# Altium schematic symbol library MCU_NXP_LPC.SchLib: 105 symbols (part 2 of 3)
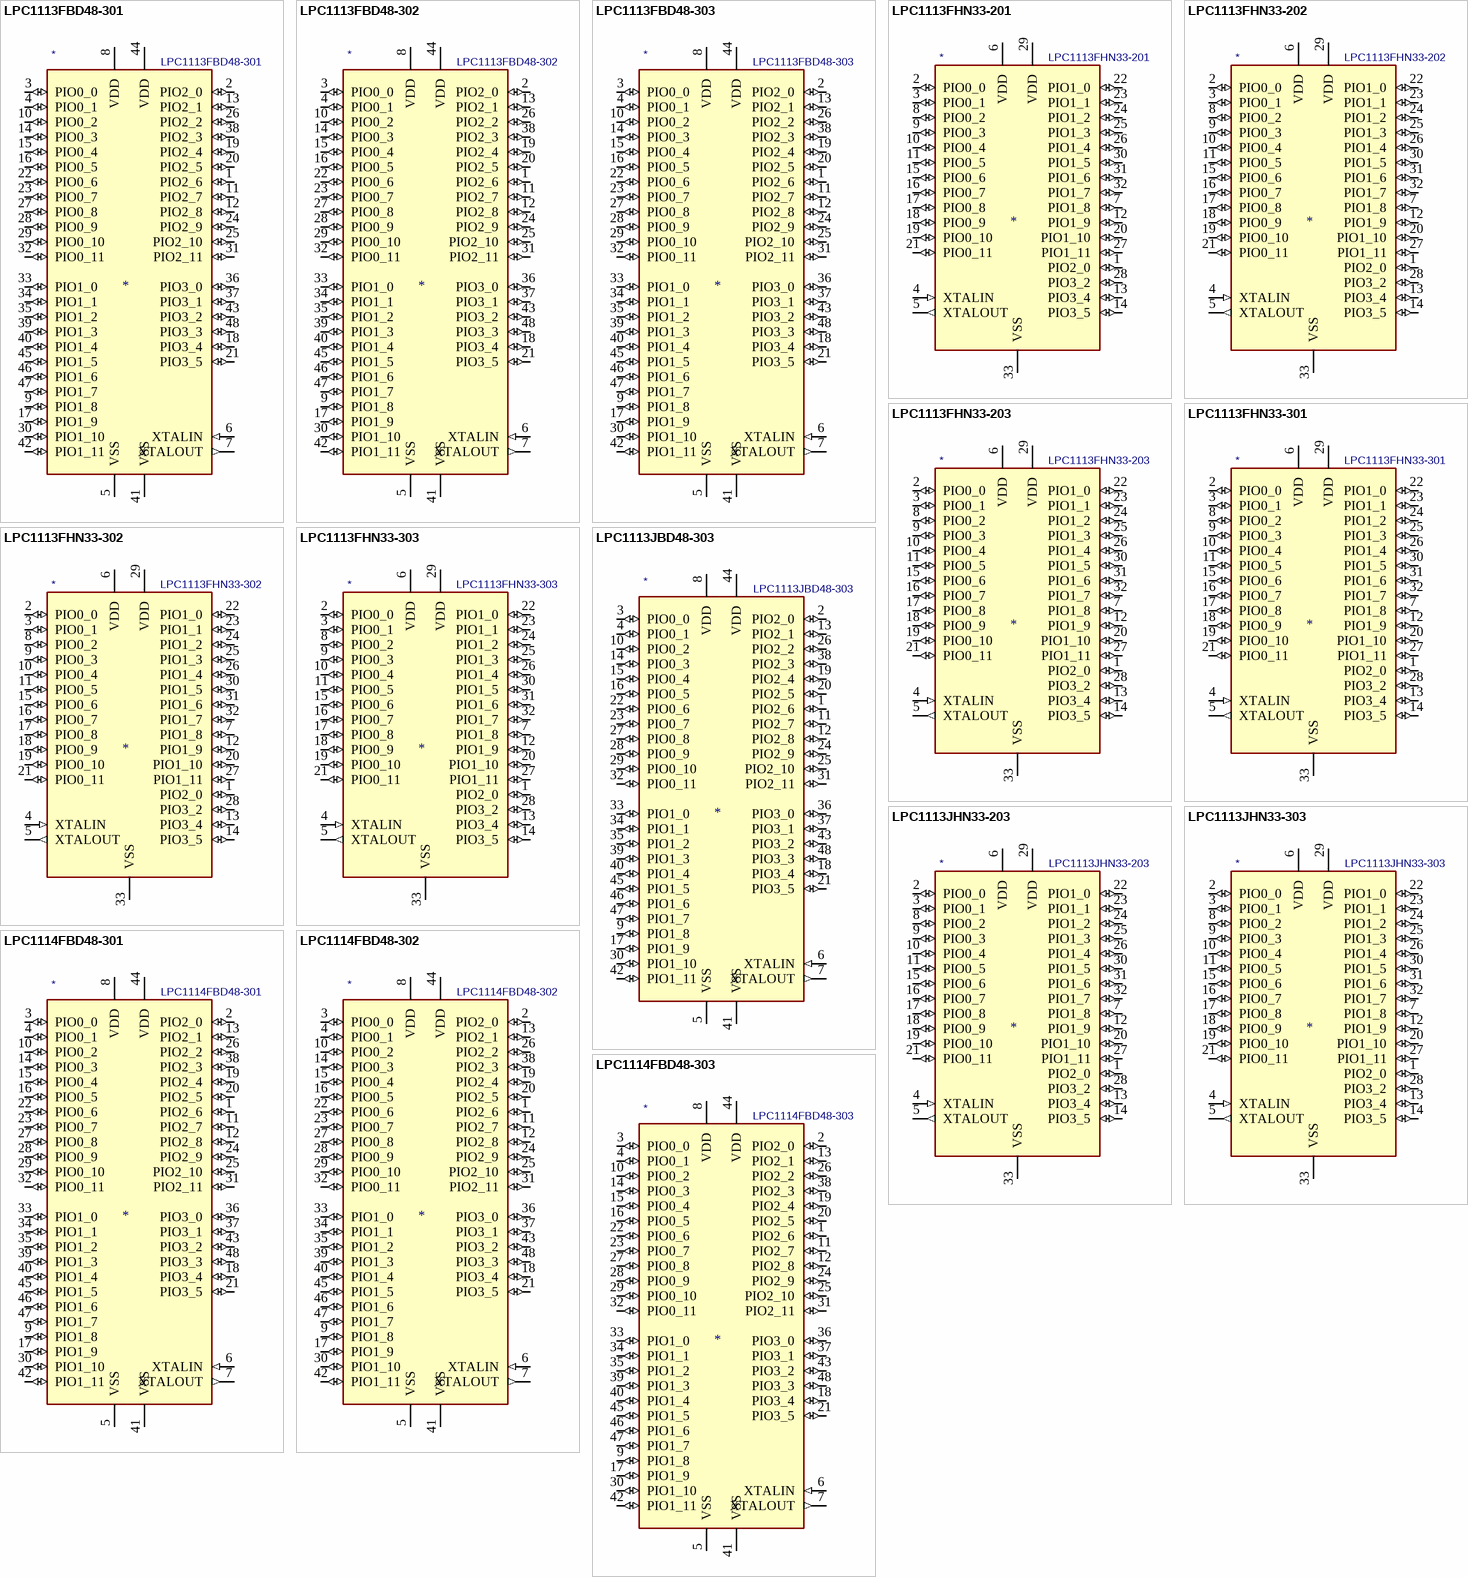
[diagram p8: symbols LPC1113FBD48-301 to LPC1114FBD48-303]

## LPC1113FBD48-303
designator *  value LPC1113FBD48-303
ki_keywords: ARM, 32-bit, Cortex-M0, M0, NXP, microcontroller; ki_description: 32-bit ARM Cortex-M0 microcontroller, 24KB flash, 8KB SRAM, power profile; ki_fp_filters: *QFP*7x7mm*P0.5mm*; Footprint: Package_QFP:LQFP-48_7x7mm_P0.5mm; Supplier: http://www.nxp.com/documents/data_sheet/LPC111X.pdf
footprint LQFP-48_7x7mm_P0.5mm
pins: 1 PIO2_6 (io), 2 PIO2_0 (io), 3 PIO0_0 (io), 4 PIO0_1 (io), 5 VSS (power), 6 XTALIN (in), 7 XTALOUT (out), 8 VDD (power), 9 PIO1_8 (io), 10 PIO0_2 (io), 11 PIO2_7 (io), 12 PIO2_8 (io), 13 PIO2_1 (io), 14 PIO0_3 (io), 15 PIO0_4 (io), 16 PIO0_5 (io), 17 PIO1_9 (io), 18 PIO3_4 (io), 19 PIO2_4 (io), 20 PIO2_5 (io), 21 PIO3_5 (io), 22 PIO0_6 (io), 23 PIO0_7 (io), 24 PIO2_9 (io), 25 PIO2_10 (io), 26 PIO2_2 (io), 27 PIO0_8 (io), 28 PIO0_9 (io), 29 PIO0_10 (io), 30 PIO1_10 (io), 31 PIO2_11 (io), 32 PIO0_11 (io), 33 PIO1_0 (io), 34 PIO1_1 (io), 35 PIO1_2 (io), 36 PIO3_0 (io), 37 PIO3_1 (io), 38 PIO2_3 (io), 39 PIO1_3 (io), 40 PIO1_4 (io), 41 VSS (power), 42 PIO1_11 (io), 43 PIO3_2 (io), 44 VDD (power), 45 PIO1_5 (io), 46 PIO1_6 (io), 47 PIO1_7 (io), 48 PIO3_3 (io)

## LPC1113FHN33-201
designator *  value LPC1113FHN33-201
ki_keywords: ARM, 32-bit, Cortex-M0, M0, NXP, microcontroller; ki_description: 32-bit ARM Cortex-M0 microcontroller, 24KB flash, 4KB SRAM; ki_fp_filters: *QFN*7x7mm*P0.65mm*; Footprint: Package_DFN_QFN:QFN-32-1EP_7x7mm_P0.65mm_EP4.7x4.7mm_ThermalVias; Supplier: https://www.nxp.com/documents/data_sheet/LPC111X.pdf
footprint QFN-32-1EP_7x7mm_P0.65mm_EP4.7x4.7mm_ThermalVias
pins: 1 PIO2_0 (io), 2 PIO0_0 (io), 3 PIO0_1 (io), 4 XTALIN (in), 5 XTALOUT (out), 6 VDD (power), 7 PIO1_8 (io), 8 PIO0_2 (io), 9 PIO0_3 (io), 10 PIO0_4 (io), 11 PIO0_5 (io), 12 PIO1_9 (io), 13 PIO3_4 (io), 14 PIO3_5 (io), 15 PIO0_6 (io), 16 PIO0_7 (io), 17 PIO0_8 (io), 18 PIO0_9 (io), 19 PIO0_10 (io), 20 PIO1_10 (io), 21 PIO0_11 (io), 22 PIO1_0 (io), 23 PIO1_1 (io), 24 PIO1_2 (io), 25 PIO1_3 (io), 26 PIO1_4 (io), 27 PIO1_11 (io), 28 PIO3_2 (io), 29 VDD (power), 30 PIO1_5 (io), 31 PIO1_6 (io), 32 PIO1_7 (io), 33 VSS (power)

## LPC1113FHN33-202
designator *  value LPC1113FHN33-202
ki_keywords: ARM, 32-bit, Cortex-M0, M0, NXP, microcontroller; ki_description: 32-bit ARM Cortex-M0 microcontroller, 24KB flash, 4KB SRAM, power profile; ki_fp_filters: *QFN*7x7mm*P0.65mm*; Footprint: Package_DFN_QFN:QFN-32-1EP_7x7mm_P0.65mm_EP4.7x4.7mm_ThermalVias; Supplier: https://www.nxp.com/documents/data_sheet/LPC111X.pdf
footprint QFN-32-1EP_7x7mm_P0.65mm_EP4.7x4.7mm_ThermalVias
pins: 1 PIO2_0 (io), 2 PIO0_0 (io), 3 PIO0_1 (io), 4 XTALIN (in), 5 XTALOUT (out), 6 VDD (power), 7 PIO1_8 (io), 8 PIO0_2 (io), 9 PIO0_3 (io), 10 PIO0_4 (io), 11 PIO0_5 (io), 12 PIO1_9 (io), 13 PIO3_4 (io), 14 PIO3_5 (io), 15 PIO0_6 (io), 16 PIO0_7 (io), 17 PIO0_8 (io), 18 PIO0_9 (io), 19 PIO0_10 (io), 20 PIO1_10 (io), 21 PIO0_11 (io), 22 PIO1_0 (io), 23 PIO1_1 (io), 24 PIO1_2 (io), 25 PIO1_3 (io), 26 PIO1_4 (io), 27 PIO1_11 (io), 28 PIO3_2 (io), 29 VDD (power), 30 PIO1_5 (io), 31 PIO1_6 (io), 32 PIO1_7 (io), 33 VSS (power)

## LPC1113FHN33-203
designator *  value LPC1113FHN33-203
ki_keywords: ARM, 32-bit, Cortex-M0, M0, NXP, microcontroller; ki_description: 32-bit ARM Cortex-M0 microcontroller, 24KB flash, 4KB SRAM; ki_fp_filters: *QFN*7x7mm*P0.65mm*; Footprint: Package_DFN_QFN:QFN-32-1EP_7x7mm_P0.65mm_EP4.7x4.7mm_ThermalVias; Supplier: https://www.nxp.com/documents/data_sheet/LPC111X.pdf
footprint QFN-32-1EP_7x7mm_P0.65mm_EP4.7x4.7mm_ThermalVias
pins: 1 PIO2_0 (io), 2 PIO0_0 (io), 3 PIO0_1 (io), 4 XTALIN (in), 5 XTALOUT (out), 6 VDD (power), 7 PIO1_8 (io), 8 PIO0_2 (io), 9 PIO0_3 (io), 10 PIO0_4 (io), 11 PIO0_5 (io), 12 PIO1_9 (io), 13 PIO3_4 (io), 14 PIO3_5 (io), 15 PIO0_6 (io), 16 PIO0_7 (io), 17 PIO0_8 (io), 18 PIO0_9 (io), 19 PIO0_10 (io), 20 PIO1_10 (io), 21 PIO0_11 (io), 22 PIO1_0 (io), 23 PIO1_1 (io), 24 PIO1_2 (io), 25 PIO1_3 (io), 26 PIO1_4 (io), 27 PIO1_11 (io), 28 PIO3_2 (io), 29 VDD (power), 30 PIO1_5 (io), 31 PIO1_6 (io), 32 PIO1_7 (io), 33 VSS (power)

## LPC1113FHN33-301
designator *  value LPC1113FHN33-301
ki_keywords: ARM, 32-bit, Cortex-M0, M0, NXP, microcontroller; ki_description: 32-bit ARM Cortex-M0 microcontroller, 24KB flash, 8KB SRAM; ki_fp_filters: *QFN*7x7mm*P0.65mm*; Footprint: Package_DFN_QFN:QFN-32-1EP_7x7mm_P0.65mm_EP4.7x4.7mm_ThermalVias; Supplier: https://www.nxp.com/documents/data_sheet/LPC111X.pdf
footprint QFN-32-1EP_7x7mm_P0.65mm_EP4.7x4.7mm_ThermalVias
pins: 1 PIO2_0 (io), 2 PIO0_0 (io), 3 PIO0_1 (io), 4 XTALIN (in), 5 XTALOUT (out), 6 VDD (power), 7 PIO1_8 (io), 8 PIO0_2 (io), 9 PIO0_3 (io), 10 PIO0_4 (io), 11 PIO0_5 (io), 12 PIO1_9 (io), 13 PIO3_4 (io), 14 PIO3_5 (io), 15 PIO0_6 (io), 16 PIO0_7 (io), 17 PIO0_8 (io), 18 PIO0_9 (io), 19 PIO0_10 (io), 20 PIO1_10 (io), 21 PIO0_11 (io), 22 PIO1_0 (io), 23 PIO1_1 (io), 24 PIO1_2 (io), 25 PIO1_3 (io), 26 PIO1_4 (io), 27 PIO1_11 (io), 28 PIO3_2 (io), 29 VDD (power), 30 PIO1_5 (io), 31 PIO1_6 (io), 32 PIO1_7 (io), 33 VSS (power)

## LPC1113FHN33-302
designator *  value LPC1113FHN33-302
ki_keywords: ARM, 32-bit, Cortex-M0, M0, NXP, microcontroller; ki_description: 32-bit ARM Cortex-M0 microcontroller, 24KB flash, 8KB SRAM, power profile; ki_fp_filters: *QFN*7x7mm*P0.65mm*; Footprint: Package_DFN_QFN:QFN-32-1EP_7x7mm_P0.65mm_EP4.7x4.7mm_ThermalVias; Supplier: https://www.nxp.com/documents/data_sheet/LPC111X.pdf
footprint QFN-32-1EP_7x7mm_P0.65mm_EP4.7x4.7mm_ThermalVias
pins: 1 PIO2_0 (io), 2 PIO0_0 (io), 3 PIO0_1 (io), 4 XTALIN (in), 5 XTALOUT (out), 6 VDD (power), 7 PIO1_8 (io), 8 PIO0_2 (io), 9 PIO0_3 (io), 10 PIO0_4 (io), 11 PIO0_5 (io), 12 PIO1_9 (io), 13 PIO3_4 (io), 14 PIO3_5 (io), 15 PIO0_6 (io), 16 PIO0_7 (io), 17 PIO0_8 (io), 18 PIO0_9 (io), 19 PIO0_10 (io), 20 PIO1_10 (io), 21 PIO0_11 (io), 22 PIO1_0 (io), 23 PIO1_1 (io), 24 PIO1_2 (io), 25 PIO1_3 (io), 26 PIO1_4 (io), 27 PIO1_11 (io), 28 PIO3_2 (io), 29 VDD (power), 30 PIO1_5 (io), 31 PIO1_6 (io), 32 PIO1_7 (io), 33 VSS (power)

## LPC1113FHN33-303
designator *  value LPC1113FHN33-303
ki_keywords: ARM, 32-bit, Cortex-M0, M0, NXP, microcontroller; ki_description: 32-bit ARM Cortex-M0 microcontroller, 24KB flash, 8KB SRAM; ki_fp_filters: *QFN*7x7mm*P0.65mm*; Footprint: Package_DFN_QFN:QFN-32-1EP_7x7mm_P0.65mm_EP4.7x4.7mm_ThermalVias; Supplier: https://www.nxp.com/documents/data_sheet/LPC111X.pdf
footprint QFN-32-1EP_7x7mm_P0.65mm_EP4.7x4.7mm_ThermalVias
pins: 1 PIO2_0 (io), 2 PIO0_0 (io), 3 PIO0_1 (io), 4 XTALIN (in), 5 XTALOUT (out), 6 VDD (power), 7 PIO1_8 (io), 8 PIO0_2 (io), 9 PIO0_3 (io), 10 PIO0_4 (io), 11 PIO0_5 (io), 12 PIO1_9 (io), 13 PIO3_4 (io), 14 PIO3_5 (io), 15 PIO0_6 (io), 16 PIO0_7 (io), 17 PIO0_8 (io), 18 PIO0_9 (io), 19 PIO0_10 (io), 20 PIO1_10 (io), 21 PIO0_11 (io), 22 PIO1_0 (io), 23 PIO1_1 (io), 24 PIO1_2 (io), 25 PIO1_3 (io), 26 PIO1_4 (io), 27 PIO1_11 (io), 28 PIO3_2 (io), 29 VDD (power), 30 PIO1_5 (io), 31 PIO1_6 (io), 32 PIO1_7 (io), 33 VSS (power)

## LPC1113JBD48-303
designator *  value LPC1113JBD48-303
ki_keywords: ARM, 32-bit, Cortex-M0, M0, NXP, microcontroller; ki_description: 32-bit ARM Cortex-M0 microcontroller, 24KB flash, 8KB SRAM, power profile; ki_fp_filters: *QFP*7x7mm*P0.5mm*; Footprint: Package_QFP:LQFP-48_7x7mm_P0.5mm; Supplier: http://www.nxp.com/documents/data_sheet/LPC111X.pdf
footprint LQFP-48_7x7mm_P0.5mm
pins: 1 PIO2_6 (io), 2 PIO2_0 (io), 3 PIO0_0 (io), 4 PIO0_1 (io), 5 VSS (power), 6 XTALIN (in), 7 XTALOUT (out), 8 VDD (power), 9 PIO1_8 (io), 10 PIO0_2 (io), 11 PIO2_7 (io), 12 PIO2_8 (io), 13 PIO2_1 (io), 14 PIO0_3 (io), 15 PIO0_4 (io), 16 PIO0_5 (io), 17 PIO1_9 (io), 18 PIO3_4 (io), 19 PIO2_4 (io), 20 PIO2_5 (io), 21 PIO3_5 (io), 22 PIO0_6 (io), 23 PIO0_7 (io), 24 PIO2_9 (io), 25 PIO2_10 (io), 26 PIO2_2 (io), 27 PIO0_8 (io), 28 PIO0_9 (io), 29 PIO0_10 (io), 30 PIO1_10 (io), 31 PIO2_11 (io), 32 PIO0_11 (io), 33 PIO1_0 (io), 34 PIO1_1 (io), 35 PIO1_2 (io), 36 PIO3_0 (io), 37 PIO3_1 (io), 38 PIO2_3 (io), 39 PIO1_3 (io), 40 PIO1_4 (io), 41 VSS (power), 42 PIO1_11 (io), 43 PIO3_2 (io), 44 VDD (power), 45 PIO1_5 (io), 46 PIO1_6 (io), 47 PIO1_7 (io), 48 PIO3_3 (io)

## LPC1113JHN33-203
designator *  value LPC1113JHN33-203
ki_keywords: ARM, 32-bit, Cortex-M0, M0, NXP, microcontroller; ki_description: 32-bit ARM Cortex-M0 microcontroller, 24KB flash, 4KB SRAM; ki_fp_filters: *QFN*7x7mm*P0.65mm*; Footprint: Package_DFN_QFN:QFN-32-1EP_7x7mm_P0.65mm_EP4.7x4.7mm_ThermalVias; Supplier: https://www.nxp.com/documents/data_sheet/LPC111X.pdf
footprint QFN-32-1EP_7x7mm_P0.65mm_EP4.7x4.7mm_ThermalVias
pins: 1 PIO2_0 (io), 2 PIO0_0 (io), 3 PIO0_1 (io), 4 XTALIN (in), 5 XTALOUT (out), 6 VDD (power), 7 PIO1_8 (io), 8 PIO0_2 (io), 9 PIO0_3 (io), 10 PIO0_4 (io), 11 PIO0_5 (io), 12 PIO1_9 (io), 13 PIO3_4 (io), 14 PIO3_5 (io), 15 PIO0_6 (io), 16 PIO0_7 (io), 17 PIO0_8 (io), 18 PIO0_9 (io), 19 PIO0_10 (io), 20 PIO1_10 (io), 21 PIO0_11 (io), 22 PIO1_0 (io), 23 PIO1_1 (io), 24 PIO1_2 (io), 25 PIO1_3 (io), 26 PIO1_4 (io), 27 PIO1_11 (io), 28 PIO3_2 (io), 29 VDD (power), 30 PIO1_5 (io), 31 PIO1_6 (io), 32 PIO1_7 (io), 33 VSS (power)

## LPC1113JHN33-303
designator *  value LPC1113JHN33-303
ki_keywords: ARM, 32-bit, Cortex-M0, M0, NXP, microcontroller; ki_description: 32-bit ARM Cortex-M0 microcontroller, 24KB flash, 8KB SRAM; ki_fp_filters: *QFN*7x7mm*P0.65mm*; Footprint: Package_DFN_QFN:QFN-32-1EP_7x7mm_P0.65mm_EP4.7x4.7mm_ThermalVias; Supplier: https://www.nxp.com/documents/data_sheet/LPC111X.pdf
footprint QFN-32-1EP_7x7mm_P0.65mm_EP4.7x4.7mm_ThermalVias
pins: 1 PIO2_0 (io), 2 PIO0_0 (io), 3 PIO0_1 (io), 4 XTALIN (in), 5 XTALOUT (out), 6 VDD (power), 7 PIO1_8 (io), 8 PIO0_2 (io), 9 PIO0_3 (io), 10 PIO0_4 (io), 11 PIO0_5 (io), 12 PIO1_9 (io), 13 PIO3_4 (io), 14 PIO3_5 (io), 15 PIO0_6 (io), 16 PIO0_7 (io), 17 PIO0_8 (io), 18 PIO0_9 (io), 19 PIO0_10 (io), 20 PIO1_10 (io), 21 PIO0_11 (io), 22 PIO1_0 (io), 23 PIO1_1 (io), 24 PIO1_2 (io), 25 PIO1_3 (io), 26 PIO1_4 (io), 27 PIO1_11 (io), 28 PIO3_2 (io), 29 VDD (power), 30 PIO1_5 (io), 31 PIO1_6 (io), 32 PIO1_7 (io), 33 VSS (power)

## LPC1114FBD48-301
designator *  value LPC1114FBD48-301
ki_keywords: ARM, 32-bit, Cortex-M0, M0, NXP, microcontroller; ki_description: 32-bit ARM Cortex-M0 microcontroller, 32KB flash, 8KB SRAM; ki_fp_filters: *QFP*7x7mm*P0.5mm*; Footprint: Package_QFP:LQFP-48_7x7mm_P0.5mm; Supplier: http://www.nxp.com/documents/data_sheet/LPC111X.pdf
footprint LQFP-48_7x7mm_P0.5mm
pins: 1 PIO2_6 (io), 2 PIO2_0 (io), 3 PIO0_0 (io), 4 PIO0_1 (io), 5 VSS (power), 6 XTALIN (in), 7 XTALOUT (out), 8 VDD (power), 9 PIO1_8 (io), 10 PIO0_2 (io), 11 PIO2_7 (io), 12 PIO2_8 (io), 13 PIO2_1 (io), 14 PIO0_3 (io), 15 PIO0_4 (io), 16 PIO0_5 (io), 17 PIO1_9 (io), 18 PIO3_4 (io), 19 PIO2_4 (io), 20 PIO2_5 (io), 21 PIO3_5 (io), 22 PIO0_6 (io), 23 PIO0_7 (io), 24 PIO2_9 (io), 25 PIO2_10 (io), 26 PIO2_2 (io), 27 PIO0_8 (io), 28 PIO0_9 (io), 29 PIO0_10 (io), 30 PIO1_10 (io), 31 PIO2_11 (io), 32 PIO0_11 (io), 33 PIO1_0 (io), 34 PIO1_1 (io), 35 PIO1_2 (io), 36 PIO3_0 (io), 37 PIO3_1 (io), 38 PIO2_3 (io), 39 PIO1_3 (io), 40 PIO1_4 (io), 41 VSS (power), 42 PIO1_11 (io), 43 PIO3_2 (io), 44 VDD (power), 45 PIO1_5 (io), 46 PIO1_6 (io), 47 PIO1_7 (io), 48 PIO3_3 (io)

## LPC1114FBD48-302
designator *  value LPC1114FBD48-302
ki_keywords: ARM, 32-bit, Cortex-M0, M0, NXP, microcontroller; ki_description: 32-bit ARM Cortex-M0 microcontroller, 32KB flash, 8KB SRAM, power profile; ki_fp_filters: *QFP*7x7mm*P0.5mm*; Footprint: Package_QFP:LQFP-48_7x7mm_P0.5mm; Supplier: http://www.nxp.com/documents/data_sheet/LPC111X.pdf
footprint LQFP-48_7x7mm_P0.5mm
pins: 1 PIO2_6 (io), 2 PIO2_0 (io), 3 PIO0_0 (io), 4 PIO0_1 (io), 5 VSS (power), 6 XTALIN (in), 7 XTALOUT (out), 8 VDD (power), 9 PIO1_8 (io), 10 PIO0_2 (io), 11 PIO2_7 (io), 12 PIO2_8 (io), 13 PIO2_1 (io), 14 PIO0_3 (io), 15 PIO0_4 (io), 16 PIO0_5 (io), 17 PIO1_9 (io), 18 PIO3_4 (io), 19 PIO2_4 (io), 20 PIO2_5 (io), 21 PIO3_5 (io), 22 PIO0_6 (io), 23 PIO0_7 (io), 24 PIO2_9 (io), 25 PIO2_10 (io), 26 PIO2_2 (io), 27 PIO0_8 (io), 28 PIO0_9 (io), 29 PIO0_10 (io), 30 PIO1_10 (io), 31 PIO2_11 (io), 32 PIO0_11 (io), 33 PIO1_0 (io), 34 PIO1_1 (io), 35 PIO1_2 (io), 36 PIO3_0 (io), 37 PIO3_1 (io), 38 PIO2_3 (io), 39 PIO1_3 (io), 40 PIO1_4 (io), 41 VSS (power), 42 PIO1_11 (io), 43 PIO3_2 (io), 44 VDD (power), 45 PIO1_5 (io), 46 PIO1_6 (io), 47 PIO1_7 (io), 48 PIO3_3 (io)

## LPC1114FBD48-303
designator *  value LPC1114FBD48-303
ki_keywords: ARM, 32-bit, Cortex-M0, M0, NXP, microcontroller; ki_description: 32-bit ARM Cortex-M0 microcontroller, 32KB flash, 8KB SRAM, power profile; ki_fp_filters: *QFP*7x7mm*P0.5mm*; Footprint: Package_QFP:LQFP-48_7x7mm_P0.5mm; Supplier: http://www.nxp.com/documents/data_sheet/LPC111X.pdf
footprint LQFP-48_7x7mm_P0.5mm
pins: 1 PIO2_6 (io), 2 PIO2_0 (io), 3 PIO0_0 (io), 4 PIO0_1 (io), 5 VSS (power), 6 XTALIN (in), 7 XTALOUT (out), 8 VDD (power), 9 PIO1_8 (io), 10 PIO0_2 (io), 11 PIO2_7 (io), 12 PIO2_8 (io), 13 PIO2_1 (io), 14 PIO0_3 (io), 15 PIO0_4 (io), 16 PIO0_5 (io), 17 PIO1_9 (io), 18 PIO3_4 (io), 19 PIO2_4 (io), 20 PIO2_5 (io), 21 PIO3_5 (io), 22 PIO0_6 (io), 23 PIO0_7 (io), 24 PIO2_9 (io), 25 PIO2_10 (io), 26 PIO2_2 (io), 27 PIO0_8 (io), 28 PIO0_9 (io), 29 PIO0_10 (io), 30 PIO1_10 (io), 31 PIO2_11 (io), 32 PIO0_11 (io), 33 PIO1_0 (io), 34 PIO1_1 (io), 35 PIO1_2 (io), 36 PIO3_0 (io), 37 PIO3_1 (io), 38 PIO2_3 (io), 39 PIO1_3 (io), 40 PIO1_4 (io), 41 VSS (power), 42 PIO1_11 (io), 43 PIO3_2 (io), 44 VDD (power), 45 PIO1_5 (io), 46 PIO1_6 (io), 47 PIO1_7 (io), 48 PIO3_3 (io)

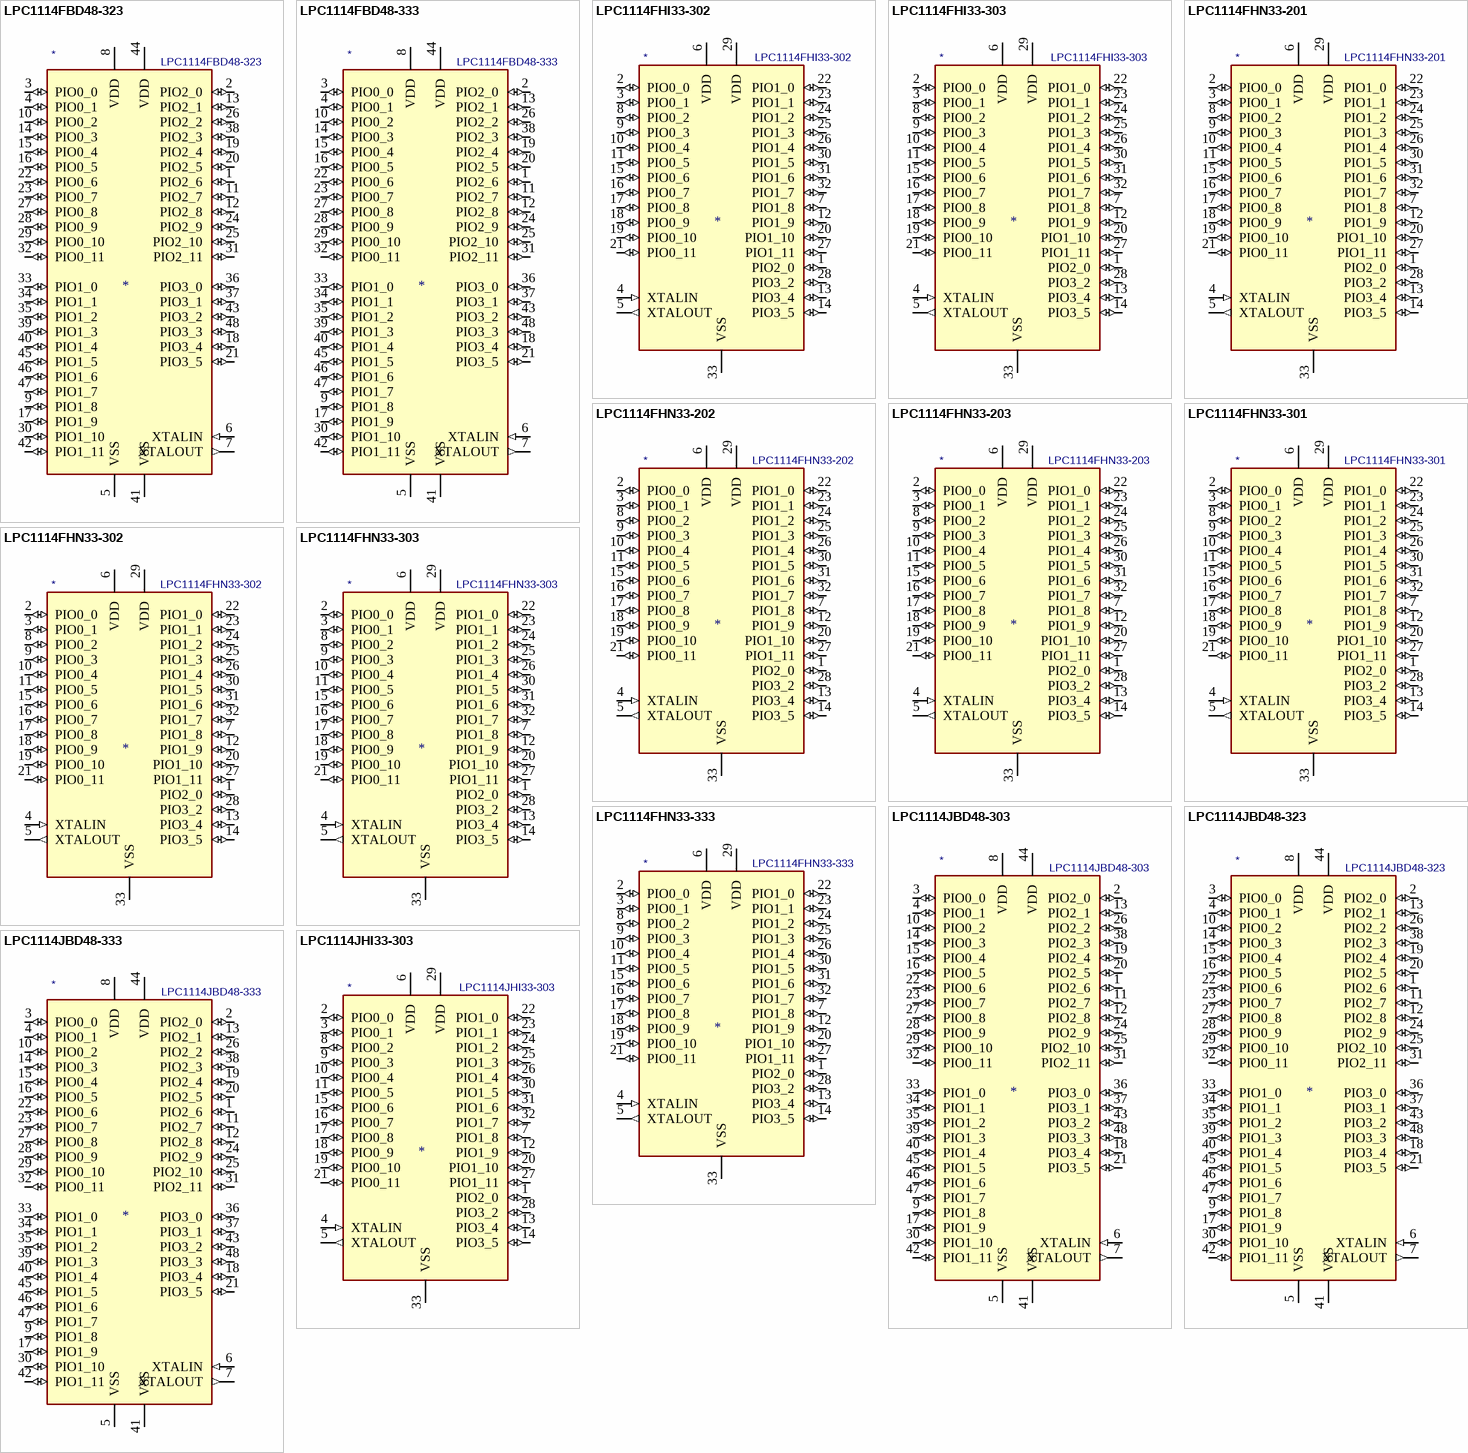
[diagram p4: symbols LPC1114FBD48-323 to LPC1114JHI33-303]

## LPC1114FBD48-323
designator *  value LPC1114FBD48-323
ki_keywords: ARM, 32-bit, Cortex-M0, M0, NXP, microcontroller; ki_description: 32-bit ARM Cortex-M0 microcontroller, 48KB flash, 8KB SRAM, power profile; ki_fp_filters: *QFP*7x7mm*P0.5mm*; Footprint: Package_QFP:LQFP-48_7x7mm_P0.5mm; Supplier: http://www.nxp.com/documents/data_sheet/LPC111X.pdf
footprint LQFP-48_7x7mm_P0.5mm
pins: 1 PIO2_6 (io), 2 PIO2_0 (io), 3 PIO0_0 (io), 4 PIO0_1 (io), 5 VSS (power), 6 XTALIN (in), 7 XTALOUT (out), 8 VDD (power), 9 PIO1_8 (io), 10 PIO0_2 (io), 11 PIO2_7 (io), 12 PIO2_8 (io), 13 PIO2_1 (io), 14 PIO0_3 (io), 15 PIO0_4 (io), 16 PIO0_5 (io), 17 PIO1_9 (io), 18 PIO3_4 (io), 19 PIO2_4 (io), 20 PIO2_5 (io), 21 PIO3_5 (io), 22 PIO0_6 (io), 23 PIO0_7 (io), 24 PIO2_9 (io), 25 PIO2_10 (io), 26 PIO2_2 (io), 27 PIO0_8 (io), 28 PIO0_9 (io), 29 PIO0_10 (io), 30 PIO1_10 (io), 31 PIO2_11 (io), 32 PIO0_11 (io), 33 PIO1_0 (io), 34 PIO1_1 (io), 35 PIO1_2 (io), 36 PIO3_0 (io), 37 PIO3_1 (io), 38 PIO2_3 (io), 39 PIO1_3 (io), 40 PIO1_4 (io), 41 VSS (power), 42 PIO1_11 (io), 43 PIO3_2 (io), 44 VDD (power), 45 PIO1_5 (io), 46 PIO1_6 (io), 47 PIO1_7 (io), 48 PIO3_3 (io)

## LPC1114FBD48-333
designator *  value LPC1114FBD48-333
ki_keywords: ARM, 32-bit, Cortex-M0, M0, NXP, microcontroller; ki_description: 32-bit ARM Cortex-M0 microcontroller, 56KB flash, 8KB SRAM, power profile; ki_fp_filters: *QFP*7x7mm*P0.5mm*; Footprint: Package_QFP:LQFP-48_7x7mm_P0.5mm; Supplier: http://www.nxp.com/documents/data_sheet/LPC111X.pdf
footprint LQFP-48_7x7mm_P0.5mm
pins: 1 PIO2_6 (io), 2 PIO2_0 (io), 3 PIO0_0 (io), 4 PIO0_1 (io), 5 VSS (power), 6 XTALIN (in), 7 XTALOUT (out), 8 VDD (power), 9 PIO1_8 (io), 10 PIO0_2 (io), 11 PIO2_7 (io), 12 PIO2_8 (io), 13 PIO2_1 (io), 14 PIO0_3 (io), 15 PIO0_4 (io), 16 PIO0_5 (io), 17 PIO1_9 (io), 18 PIO3_4 (io), 19 PIO2_4 (io), 20 PIO2_5 (io), 21 PIO3_5 (io), 22 PIO0_6 (io), 23 PIO0_7 (io), 24 PIO2_9 (io), 25 PIO2_10 (io), 26 PIO2_2 (io), 27 PIO0_8 (io), 28 PIO0_9 (io), 29 PIO0_10 (io), 30 PIO1_10 (io), 31 PIO2_11 (io), 32 PIO0_11 (io), 33 PIO1_0 (io), 34 PIO1_1 (io), 35 PIO1_2 (io), 36 PIO3_0 (io), 37 PIO3_1 (io), 38 PIO2_3 (io), 39 PIO1_3 (io), 40 PIO1_4 (io), 41 VSS (power), 42 PIO1_11 (io), 43 PIO3_2 (io), 44 VDD (power), 45 PIO1_5 (io), 46 PIO1_6 (io), 47 PIO1_7 (io), 48 PIO3_3 (io)

## LPC1114FHI33-302
designator *  value LPC1114FHI33-302
ki_keywords: ARM, 32-bit, Cortex-M0, M0, NXP, microcontroller; ki_description: 32-bit ARM Cortex-M0 microcontroller, 32KB flash, 8KB SRAM, power profile; ki_fp_filters: *QFN*5x5mm*P0.5mm*; Footprint: Package_DFN_QFN:QFN-32-1EP_5x5mm_P0.5mm_EP3.45x3.45mm; Supplier: https://www.nxp.com/documents/data_sheet/LPC111X.pdf
footprint QFN-32-1EP_5x5mm_P0.5mm_EP3.45x3.45mm
pins: 1 PIO2_0 (io), 2 PIO0_0 (io), 3 PIO0_1 (io), 4 XTALIN (in), 5 XTALOUT (out), 6 VDD (power), 7 PIO1_8 (io), 8 PIO0_2 (io), 9 PIO0_3 (io), 10 PIO0_4 (io), 11 PIO0_5 (io), 12 PIO1_9 (io), 13 PIO3_4 (io), 14 PIO3_5 (io), 15 PIO0_6 (io), 16 PIO0_7 (io), 17 PIO0_8 (io), 18 PIO0_9 (io), 19 PIO0_10 (io), 20 PIO1_10 (io), 21 PIO0_11 (io), 22 PIO1_0 (io), 23 PIO1_1 (io), 24 PIO1_2 (io), 25 PIO1_3 (io), 26 PIO1_4 (io), 27 PIO1_11 (io), 28 PIO3_2 (io), 29 VDD (power), 30 PIO1_5 (io), 31 PIO1_6 (io), 32 PIO1_7 (io), 33 VSS (power)

## LPC1114FHI33-303
designator *  value LPC1114FHI33-303
ki_keywords: ARM, 32-bit, Cortex-M0, M0, NXP, microcontroller; ki_description: 32-bit ARM Cortex-M0 microcontroller, 32KB flash, 8KB SRAM, power profile; ki_fp_filters: *QFN*5x5mm*P0.5mm*; Footprint: Package_DFN_QFN:QFN-32-1EP_5x5mm_P0.5mm_EP3.45x3.45mm; Supplier: https://www.nxp.com/documents/data_sheet/LPC111X.pdf
footprint QFN-32-1EP_5x5mm_P0.5mm_EP3.45x3.45mm
pins: 1 PIO2_0 (io), 2 PIO0_0 (io), 3 PIO0_1 (io), 4 XTALIN (in), 5 XTALOUT (out), 6 VDD (power), 7 PIO1_8 (io), 8 PIO0_2 (io), 9 PIO0_3 (io), 10 PIO0_4 (io), 11 PIO0_5 (io), 12 PIO1_9 (io), 13 PIO3_4 (io), 14 PIO3_5 (io), 15 PIO0_6 (io), 16 PIO0_7 (io), 17 PIO0_8 (io), 18 PIO0_9 (io), 19 PIO0_10 (io), 20 PIO1_10 (io), 21 PIO0_11 (io), 22 PIO1_0 (io), 23 PIO1_1 (io), 24 PIO1_2 (io), 25 PIO1_3 (io), 26 PIO1_4 (io), 27 PIO1_11 (io), 28 PIO3_2 (io), 29 VDD (power), 30 PIO1_5 (io), 31 PIO1_6 (io), 32 PIO1_7 (io), 33 VSS (power)

## LPC1114FHN33-201
designator *  value LPC1114FHN33-201
ki_keywords: ARM, 32-bit, Cortex-M0, M0, NXP, microcontroller; ki_description: 32-bit ARM Cortex-M0 microcontroller, 32KB flash, 4KB SRAM; ki_fp_filters: *QFN*7x7mm*P0.65mm*; Footprint: Package_DFN_QFN:QFN-32-1EP_7x7mm_P0.65mm_EP4.7x4.7mm_ThermalVias; Supplier: https://www.nxp.com/documents/data_sheet/LPC111X.pdf
footprint QFN-32-1EP_7x7mm_P0.65mm_EP4.7x4.7mm_ThermalVias
pins: 1 PIO2_0 (io), 2 PIO0_0 (io), 3 PIO0_1 (io), 4 XTALIN (in), 5 XTALOUT (out), 6 VDD (power), 7 PIO1_8 (io), 8 PIO0_2 (io), 9 PIO0_3 (io), 10 PIO0_4 (io), 11 PIO0_5 (io), 12 PIO1_9 (io), 13 PIO3_4 (io), 14 PIO3_5 (io), 15 PIO0_6 (io), 16 PIO0_7 (io), 17 PIO0_8 (io), 18 PIO0_9 (io), 19 PIO0_10 (io), 20 PIO1_10 (io), 21 PIO0_11 (io), 22 PIO1_0 (io), 23 PIO1_1 (io), 24 PIO1_2 (io), 25 PIO1_3 (io), 26 PIO1_4 (io), 27 PIO1_11 (io), 28 PIO3_2 (io), 29 VDD (power), 30 PIO1_5 (io), 31 PIO1_6 (io), 32 PIO1_7 (io), 33 VSS (power)

## LPC1114FHN33-202
designator *  value LPC1114FHN33-202
ki_keywords: ARM, 32-bit, Cortex-M0, M0, NXP, microcontroller; ki_description: 32-bit ARM Cortex-M0 microcontroller, 32KB flash, 4KB SRAM, power profile; ki_fp_filters: *QFN*7x7mm*P0.65mm*; Footprint: Package_DFN_QFN:QFN-32-1EP_7x7mm_P0.65mm_EP4.7x4.7mm_ThermalVias; Supplier: https://www.nxp.com/documents/data_sheet/LPC111X.pdf
footprint QFN-32-1EP_7x7mm_P0.65mm_EP4.7x4.7mm_ThermalVias
pins: 1 PIO2_0 (io), 2 PIO0_0 (io), 3 PIO0_1 (io), 4 XTALIN (in), 5 XTALOUT (out), 6 VDD (power), 7 PIO1_8 (io), 8 PIO0_2 (io), 9 PIO0_3 (io), 10 PIO0_4 (io), 11 PIO0_5 (io), 12 PIO1_9 (io), 13 PIO3_4 (io), 14 PIO3_5 (io), 15 PIO0_6 (io), 16 PIO0_7 (io), 17 PIO0_8 (io), 18 PIO0_9 (io), 19 PIO0_10 (io), 20 PIO1_10 (io), 21 PIO0_11 (io), 22 PIO1_0 (io), 23 PIO1_1 (io), 24 PIO1_2 (io), 25 PIO1_3 (io), 26 PIO1_4 (io), 27 PIO1_11 (io), 28 PIO3_2 (io), 29 VDD (power), 30 PIO1_5 (io), 31 PIO1_6 (io), 32 PIO1_7 (io), 33 VSS (power)

## LPC1114FHN33-203
designator *  value LPC1114FHN33-203
ki_keywords: ARM, 32-bit, Cortex-M0, M0, NXP, microcontroller; ki_description: 32-bit ARM Cortex-M0 microcontroller, 32KB flash, 4KB SRAM; ki_fp_filters: *QFN*7x7mm*P0.65mm*; Footprint: Package_DFN_QFN:QFN-32-1EP_7x7mm_P0.65mm_EP4.7x4.7mm_ThermalVias; Supplier: https://www.nxp.com/documents/data_sheet/LPC111X.pdf
footprint QFN-32-1EP_7x7mm_P0.65mm_EP4.7x4.7mm_ThermalVias
pins: 1 PIO2_0 (io), 2 PIO0_0 (io), 3 PIO0_1 (io), 4 XTALIN (in), 5 XTALOUT (out), 6 VDD (power), 7 PIO1_8 (io), 8 PIO0_2 (io), 9 PIO0_3 (io), 10 PIO0_4 (io), 11 PIO0_5 (io), 12 PIO1_9 (io), 13 PIO3_4 (io), 14 PIO3_5 (io), 15 PIO0_6 (io), 16 PIO0_7 (io), 17 PIO0_8 (io), 18 PIO0_9 (io), 19 PIO0_10 (io), 20 PIO1_10 (io), 21 PIO0_11 (io), 22 PIO1_0 (io), 23 PIO1_1 (io), 24 PIO1_2 (io), 25 PIO1_3 (io), 26 PIO1_4 (io), 27 PIO1_11 (io), 28 PIO3_2 (io), 29 VDD (power), 30 PIO1_5 (io), 31 PIO1_6 (io), 32 PIO1_7 (io), 33 VSS (power)

## LPC1114FHN33-301
designator *  value LPC1114FHN33-301
ki_keywords: ARM, 32-bit, Cortex-M0, M0, NXP, microcontroller; ki_description: 32-bit ARM Cortex-M0 microcontroller, 32KB flash, 8KB SRAM; ki_fp_filters: *QFN*7x7mm*P0.65mm*; Footprint: Package_DFN_QFN:QFN-32-1EP_7x7mm_P0.65mm_EP4.7x4.7mm_ThermalVias; Supplier: https://www.nxp.com/documents/data_sheet/LPC111X.pdf
footprint QFN-32-1EP_7x7mm_P0.65mm_EP4.7x4.7mm_ThermalVias
pins: 1 PIO2_0 (io), 2 PIO0_0 (io), 3 PIO0_1 (io), 4 XTALIN (in), 5 XTALOUT (out), 6 VDD (power), 7 PIO1_8 (io), 8 PIO0_2 (io), 9 PIO0_3 (io), 10 PIO0_4 (io), 11 PIO0_5 (io), 12 PIO1_9 (io), 13 PIO3_4 (io), 14 PIO3_5 (io), 15 PIO0_6 (io), 16 PIO0_7 (io), 17 PIO0_8 (io), 18 PIO0_9 (io), 19 PIO0_10 (io), 20 PIO1_10 (io), 21 PIO0_11 (io), 22 PIO1_0 (io), 23 PIO1_1 (io), 24 PIO1_2 (io), 25 PIO1_3 (io), 26 PIO1_4 (io), 27 PIO1_11 (io), 28 PIO3_2 (io), 29 VDD (power), 30 PIO1_5 (io), 31 PIO1_6 (io), 32 PIO1_7 (io), 33 VSS (power)

## LPC1114FHN33-302
designator *  value LPC1114FHN33-302
ki_keywords: ARM, 32-bit, Cortex-M0, M0, NXP, microcontroller; ki_description: 32-bit ARM Cortex-M0 microcontroller, 32KB flash, 8KB SRAM, power profile; ki_fp_filters: *QFN*7x7mm*P0.65mm*; Footprint: Package_DFN_QFN:QFN-32-1EP_7x7mm_P0.65mm_EP4.7x4.7mm_ThermalVias; Supplier: https://www.nxp.com/documents/data_sheet/LPC111X.pdf
footprint QFN-32-1EP_7x7mm_P0.65mm_EP4.7x4.7mm_ThermalVias
pins: 1 PIO2_0 (io), 2 PIO0_0 (io), 3 PIO0_1 (io), 4 XTALIN (in), 5 XTALOUT (out), 6 VDD (power), 7 PIO1_8 (io), 8 PIO0_2 (io), 9 PIO0_3 (io), 10 PIO0_4 (io), 11 PIO0_5 (io), 12 PIO1_9 (io), 13 PIO3_4 (io), 14 PIO3_5 (io), 15 PIO0_6 (io), 16 PIO0_7 (io), 17 PIO0_8 (io), 18 PIO0_9 (io), 19 PIO0_10 (io), 20 PIO1_10 (io), 21 PIO0_11 (io), 22 PIO1_0 (io), 23 PIO1_1 (io), 24 PIO1_2 (io), 25 PIO1_3 (io), 26 PIO1_4 (io), 27 PIO1_11 (io), 28 PIO3_2 (io), 29 VDD (power), 30 PIO1_5 (io), 31 PIO1_6 (io), 32 PIO1_7 (io), 33 VSS (power)

## LPC1114FHN33-303
designator *  value LPC1114FHN33-303
ki_keywords: ARM, 32-bit, Cortex-M0, M0, NXP, microcontroller; ki_description: 32-bit ARM Cortex-M0 microcontroller, 32KB flash, 8KB SRAM; ki_fp_filters: *QFN*7x7mm*P0.65mm*; Footprint: Package_DFN_QFN:QFN-32-1EP_7x7mm_P0.65mm_EP4.7x4.7mm_ThermalVias; Supplier: https://www.nxp.com/documents/data_sheet/LPC111X.pdf
footprint QFN-32-1EP_7x7mm_P0.65mm_EP4.7x4.7mm_ThermalVias
pins: 1 PIO2_0 (io), 2 PIO0_0 (io), 3 PIO0_1 (io), 4 XTALIN (in), 5 XTALOUT (out), 6 VDD (power), 7 PIO1_8 (io), 8 PIO0_2 (io), 9 PIO0_3 (io), 10 PIO0_4 (io), 11 PIO0_5 (io), 12 PIO1_9 (io), 13 PIO3_4 (io), 14 PIO3_5 (io), 15 PIO0_6 (io), 16 PIO0_7 (io), 17 PIO0_8 (io), 18 PIO0_9 (io), 19 PIO0_10 (io), 20 PIO1_10 (io), 21 PIO0_11 (io), 22 PIO1_0 (io), 23 PIO1_1 (io), 24 PIO1_2 (io), 25 PIO1_3 (io), 26 PIO1_4 (io), 27 PIO1_11 (io), 28 PIO3_2 (io), 29 VDD (power), 30 PIO1_5 (io), 31 PIO1_6 (io), 32 PIO1_7 (io), 33 VSS (power)

## LPC1114FHN33-333
designator *  value LPC1114FHN33-333
ki_keywords: ARM, 32-bit, Cortex-M0, M0, NXP, microcontroller; ki_description: 32-bit ARM Cortex-M0 microcontroller, 56KB flash, 8KB SRAM; ki_fp_filters: *QFN*7x7mm*P0.65mm*; Footprint: Package_DFN_QFN:QFN-32-1EP_7x7mm_P0.65mm_EP4.7x4.7mm_ThermalVias; Supplier: https://www.nxp.com/documents/data_sheet/LPC111X.pdf
footprint QFN-32-1EP_7x7mm_P0.65mm_EP4.7x4.7mm_ThermalVias
pins: 1 PIO2_0 (io), 2 PIO0_0 (io), 3 PIO0_1 (io), 4 XTALIN (in), 5 XTALOUT (out), 6 VDD (power), 7 PIO1_8 (io), 8 PIO0_2 (io), 9 PIO0_3 (io), 10 PIO0_4 (io), 11 PIO0_5 (io), 12 PIO1_9 (io), 13 PIO3_4 (io), 14 PIO3_5 (io), 15 PIO0_6 (io), 16 PIO0_7 (io), 17 PIO0_8 (io), 18 PIO0_9 (io), 19 PIO0_10 (io), 20 PIO1_10 (io), 21 PIO0_11 (io), 22 PIO1_0 (io), 23 PIO1_1 (io), 24 PIO1_2 (io), 25 PIO1_3 (io), 26 PIO1_4 (io), 27 PIO1_11 (io), 28 PIO3_2 (io), 29 VDD (power), 30 PIO1_5 (io), 31 PIO1_6 (io), 32 PIO1_7 (io), 33 VSS (power)

## LPC1114JBD48-303
designator *  value LPC1114JBD48-303
ki_keywords: ARM, 32-bit, Cortex-M0, M0, NXP, microcontroller; ki_description: 32-bit ARM Cortex-M0 microcontroller, 32KB flash, 8KB SRAM, power profile; ki_fp_filters: *QFP*7x7mm*P0.5mm*; Footprint: Package_QFP:LQFP-48_7x7mm_P0.5mm; Supplier: http://www.nxp.com/documents/data_sheet/LPC111X.pdf
footprint LQFP-48_7x7mm_P0.5mm
pins: 1 PIO2_6 (io), 2 PIO2_0 (io), 3 PIO0_0 (io), 4 PIO0_1 (io), 5 VSS (power), 6 XTALIN (in), 7 XTALOUT (out), 8 VDD (power), 9 PIO1_8 (io), 10 PIO0_2 (io), 11 PIO2_7 (io), 12 PIO2_8 (io), 13 PIO2_1 (io), 14 PIO0_3 (io), 15 PIO0_4 (io), 16 PIO0_5 (io), 17 PIO1_9 (io), 18 PIO3_4 (io), 19 PIO2_4 (io), 20 PIO2_5 (io), 21 PIO3_5 (io), 22 PIO0_6 (io), 23 PIO0_7 (io), 24 PIO2_9 (io), 25 PIO2_10 (io), 26 PIO2_2 (io), 27 PIO0_8 (io), 28 PIO0_9 (io), 29 PIO0_10 (io), 30 PIO1_10 (io), 31 PIO2_11 (io), 32 PIO0_11 (io), 33 PIO1_0 (io), 34 PIO1_1 (io), 35 PIO1_2 (io), 36 PIO3_0 (io), 37 PIO3_1 (io), 38 PIO2_3 (io), 39 PIO1_3 (io), 40 PIO1_4 (io), 41 VSS (power), 42 PIO1_11 (io), 43 PIO3_2 (io), 44 VDD (power), 45 PIO1_5 (io), 46 PIO1_6 (io), 47 PIO1_7 (io), 48 PIO3_3 (io)

## LPC1114JBD48-323
designator *  value LPC1114JBD48-323
ki_keywords: ARM, 32-bit, Cortex-M0, M0, NXP, microcontroller; ki_description: 32-bit ARM Cortex-M0 microcontroller, 48KB flash, 8KB SRAM, power profile; ki_fp_filters: *QFP*7x7mm*P0.5mm*; Footprint: Package_QFP:LQFP-48_7x7mm_P0.5mm; Supplier: http://www.nxp.com/documents/data_sheet/LPC111X.pdf
footprint LQFP-48_7x7mm_P0.5mm
pins: 1 PIO2_6 (io), 2 PIO2_0 (io), 3 PIO0_0 (io), 4 PIO0_1 (io), 5 VSS (power), 6 XTALIN (in), 7 XTALOUT (out), 8 VDD (power), 9 PIO1_8 (io), 10 PIO0_2 (io), 11 PIO2_7 (io), 12 PIO2_8 (io), 13 PIO2_1 (io), 14 PIO0_3 (io), 15 PIO0_4 (io), 16 PIO0_5 (io), 17 PIO1_9 (io), 18 PIO3_4 (io), 19 PIO2_4 (io), 20 PIO2_5 (io), 21 PIO3_5 (io), 22 PIO0_6 (io), 23 PIO0_7 (io), 24 PIO2_9 (io), 25 PIO2_10 (io), 26 PIO2_2 (io), 27 PIO0_8 (io), 28 PIO0_9 (io), 29 PIO0_10 (io), 30 PIO1_10 (io), 31 PIO2_11 (io), 32 PIO0_11 (io), 33 PIO1_0 (io), 34 PIO1_1 (io), 35 PIO1_2 (io), 36 PIO3_0 (io), 37 PIO3_1 (io), 38 PIO2_3 (io), 39 PIO1_3 (io), 40 PIO1_4 (io), 41 VSS (power), 42 PIO1_11 (io), 43 PIO3_2 (io), 44 VDD (power), 45 PIO1_5 (io), 46 PIO1_6 (io), 47 PIO1_7 (io), 48 PIO3_3 (io)

## LPC1114JBD48-333
designator *  value LPC1114JBD48-333
ki_keywords: ARM, 32-bit, Cortex-M0, M0, NXP, microcontroller; ki_description: 32-bit ARM Cortex-M0 microcontroller, 56KB flash, 8KB SRAM, power profile; ki_fp_filters: *QFP*7x7mm*P0.5mm*; Footprint: Package_QFP:LQFP-48_7x7mm_P0.5mm; Supplier: http://www.nxp.com/documents/data_sheet/LPC111X.pdf
footprint LQFP-48_7x7mm_P0.5mm
pins: 1 PIO2_6 (io), 2 PIO2_0 (io), 3 PIO0_0 (io), 4 PIO0_1 (io), 5 VSS (power), 6 XTALIN (in), 7 XTALOUT (out), 8 VDD (power), 9 PIO1_8 (io), 10 PIO0_2 (io), 11 PIO2_7 (io), 12 PIO2_8 (io), 13 PIO2_1 (io), 14 PIO0_3 (io), 15 PIO0_4 (io), 16 PIO0_5 (io), 17 PIO1_9 (io), 18 PIO3_4 (io), 19 PIO2_4 (io), 20 PIO2_5 (io), 21 PIO3_5 (io), 22 PIO0_6 (io), 23 PIO0_7 (io), 24 PIO2_9 (io), 25 PIO2_10 (io), 26 PIO2_2 (io), 27 PIO0_8 (io), 28 PIO0_9 (io), 29 PIO0_10 (io), 30 PIO1_10 (io), 31 PIO2_11 (io), 32 PIO0_11 (io), 33 PIO1_0 (io), 34 PIO1_1 (io), 35 PIO1_2 (io), 36 PIO3_0 (io), 37 PIO3_1 (io), 38 PIO2_3 (io), 39 PIO1_3 (io), 40 PIO1_4 (io), 41 VSS (power), 42 PIO1_11 (io), 43 PIO3_2 (io), 44 VDD (power), 45 PIO1_5 (io), 46 PIO1_6 (io), 47 PIO1_7 (io), 48 PIO3_3 (io)

## LPC1114JHI33-303
designator *  value LPC1114JHI33-303
ki_keywords: ARM, 32-bit, Cortex-M0, M0, NXP, microcontroller; ki_description: 32-bit ARM Cortex-M0 microcontroller, 32KB flash, 8KB SRAM, power profile; ki_fp_filters: *QFN*5x5mm*P0.5mm*; Footprint: Package_DFN_QFN:QFN-32-1EP_5x5mm_P0.5mm_EP3.45x3.45mm; Supplier: https://www.nxp.com/documents/data_sheet/LPC111X.pdf
footprint QFN-32-1EP_5x5mm_P0.5mm_EP3.45x3.45mm
pins: 1 PIO2_0 (io), 2 PIO0_0 (io), 3 PIO0_1 (io), 4 XTALIN (in), 5 XTALOUT (out), 6 VDD (power), 7 PIO1_8 (io), 8 PIO0_2 (io), 9 PIO0_3 (io), 10 PIO0_4 (io), 11 PIO0_5 (io), 12 PIO1_9 (io), 13 PIO3_4 (io), 14 PIO3_5 (io), 15 PIO0_6 (io), 16 PIO0_7 (io), 17 PIO0_8 (io), 18 PIO0_9 (io), 19 PIO0_10 (io), 20 PIO1_10 (io), 21 PIO0_11 (io), 22 PIO1_0 (io), 23 PIO1_1 (io), 24 PIO1_2 (io), 25 PIO1_3 (io), 26 PIO1_4 (io), 27 PIO1_11 (io), 28 PIO3_2 (io), 29 VDD (power), 30 PIO1_5 (io), 31 PIO1_6 (io), 32 PIO1_7 (io), 33 VSS (power)

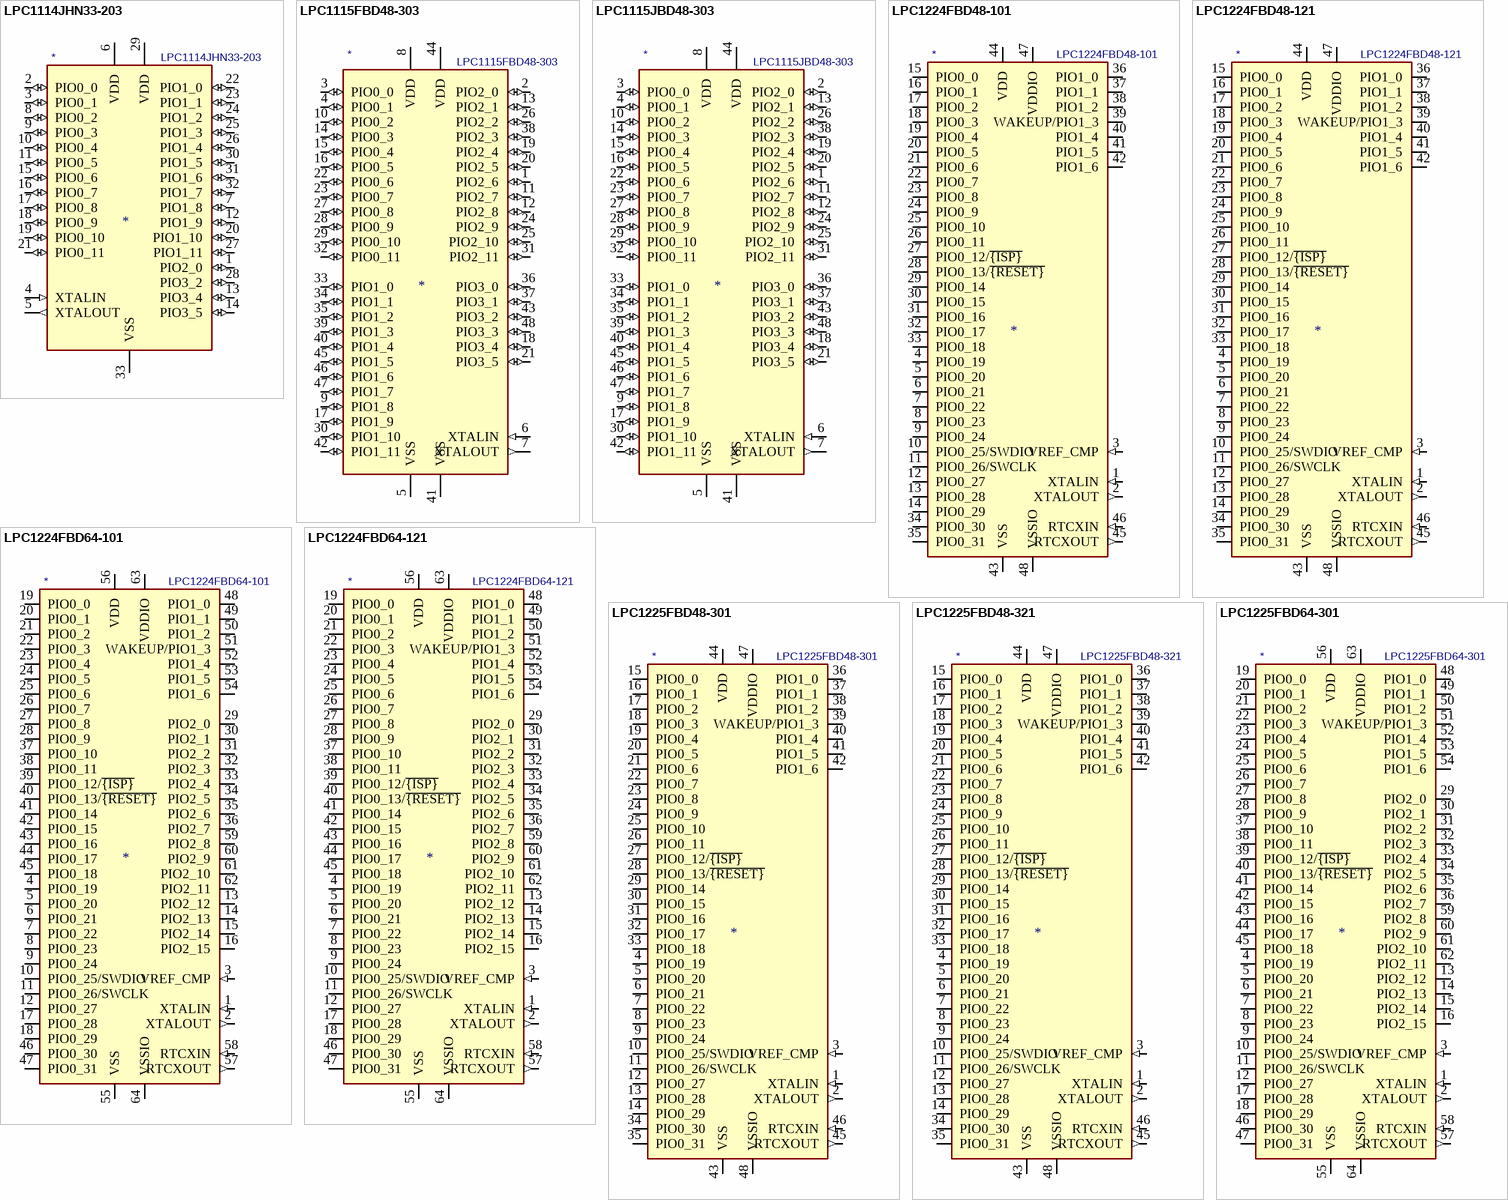
[diagram p5: symbols LPC1114JHN33-203 to LPC1225FBD64-301]

## LPC1114JHN33-203
designator *  value LPC1114JHN33-203
ki_keywords: ARM, 32-bit, Cortex-M0, M0, NXP, microcontroller; ki_description: 32-bit ARM Cortex-M0 microcontroller, 32KB flash, 4KB SRAM; ki_fp_filters: *QFN*7x7mm*P0.65mm*; Footprint: Package_DFN_QFN:QFN-32-1EP_7x7mm_P0.65mm_EP4.7x4.7mm_ThermalVias; Supplier: https://www.nxp.com/documents/data_sheet/LPC111X.pdf
footprint QFN-32-1EP_7x7mm_P0.65mm_EP4.7x4.7mm_ThermalVias
pins: 1 PIO2_0 (io), 2 PIO0_0 (io), 3 PIO0_1 (io), 4 XTALIN (in), 5 XTALOUT (out), 6 VDD (power), 7 PIO1_8 (io), 8 PIO0_2 (io), 9 PIO0_3 (io), 10 PIO0_4 (io), 11 PIO0_5 (io), 12 PIO1_9 (io), 13 PIO3_4 (io), 14 PIO3_5 (io), 15 PIO0_6 (io), 16 PIO0_7 (io), 17 PIO0_8 (io), 18 PIO0_9 (io), 19 PIO0_10 (io), 20 PIO1_10 (io), 21 PIO0_11 (io), 22 PIO1_0 (io), 23 PIO1_1 (io), 24 PIO1_2 (io), 25 PIO1_3 (io), 26 PIO1_4 (io), 27 PIO1_11 (io), 28 PIO3_2 (io), 29 VDD (power), 30 PIO1_5 (io), 31 PIO1_6 (io), 32 PIO1_7 (io), 33 VSS (power)

## LPC1115FBD48-303
designator *  value LPC1115FBD48-303
ki_keywords: ARM, 32-bit, Cortex-M0, M0, NXP, microcontroller; ki_description: 32-bit ARM Cortex-M0 microcontroller, 64KB flash, 8KB SRAM, power profile; ki_fp_filters: *QFP*7x7mm*P0.5mm*; Footprint: Package_QFP:LQFP-48_7x7mm_P0.5mm; Supplier: http://www.nxp.com/documents/data_sheet/LPC111X.pdf
footprint LQFP-48_7x7mm_P0.5mm
pins: 1 PIO2_6 (io), 2 PIO2_0 (io), 3 PIO0_0 (io), 4 PIO0_1 (io), 5 VSS (power), 6 XTALIN (in), 7 XTALOUT (out), 8 VDD (power), 9 PIO1_8 (io), 10 PIO0_2 (io), 11 PIO2_7 (io), 12 PIO2_8 (io), 13 PIO2_1 (io), 14 PIO0_3 (io), 15 PIO0_4 (io), 16 PIO0_5 (io), 17 PIO1_9 (io), 18 PIO3_4 (io), 19 PIO2_4 (io), 20 PIO2_5 (io), 21 PIO3_5 (io), 22 PIO0_6 (io), 23 PIO0_7 (io), 24 PIO2_9 (io), 25 PIO2_10 (io), 26 PIO2_2 (io), 27 PIO0_8 (io), 28 PIO0_9 (io), 29 PIO0_10 (io), 30 PIO1_10 (io), 31 PIO2_11 (io), 32 PIO0_11 (io), 33 PIO1_0 (io), 34 PIO1_1 (io), 35 PIO1_2 (io), 36 PIO3_0 (io), 37 PIO3_1 (io), 38 PIO2_3 (io), 39 PIO1_3 (io), 40 PIO1_4 (io), 41 VSS (power), 42 PIO1_11 (io), 43 PIO3_2 (io), 44 VDD (power), 45 PIO1_5 (io), 46 PIO1_6 (io), 47 PIO1_7 (io), 48 PIO3_3 (io)

## LPC1115JBD48-303
designator *  value LPC1115JBD48-303
ki_keywords: ARM, 32-bit, Cortex-M0, M0, NXP, microcontroller; ki_description: 32-bit ARM Cortex-M0 microcontroller, 64KB flash, 8KB SRAM, power profile; ki_fp_filters: *QFP*7x7mm*P0.5mm*; Footprint: Package_QFP:LQFP-48_7x7mm_P0.5mm; Supplier: http://www.nxp.com/documents/data_sheet/LPC111X.pdf
footprint LQFP-48_7x7mm_P0.5mm
pins: 1 PIO2_6 (io), 2 PIO2_0 (io), 3 PIO0_0 (io), 4 PIO0_1 (io), 5 VSS (power), 6 XTALIN (in), 7 XTALOUT (out), 8 VDD (power), 9 PIO1_8 (io), 10 PIO0_2 (io), 11 PIO2_7 (io), 12 PIO2_8 (io), 13 PIO2_1 (io), 14 PIO0_3 (io), 15 PIO0_4 (io), 16 PIO0_5 (io), 17 PIO1_9 (io), 18 PIO3_4 (io), 19 PIO2_4 (io), 20 PIO2_5 (io), 21 PIO3_5 (io), 22 PIO0_6 (io), 23 PIO0_7 (io), 24 PIO2_9 (io), 25 PIO2_10 (io), 26 PIO2_2 (io), 27 PIO0_8 (io), 28 PIO0_9 (io), 29 PIO0_10 (io), 30 PIO1_10 (io), 31 PIO2_11 (io), 32 PIO0_11 (io), 33 PIO1_0 (io), 34 PIO1_1 (io), 35 PIO1_2 (io), 36 PIO3_0 (io), 37 PIO3_1 (io), 38 PIO2_3 (io), 39 PIO1_3 (io), 40 PIO1_4 (io), 41 VSS (power), 42 PIO1_11 (io), 43 PIO3_2 (io), 44 VDD (power), 45 PIO1_5 (io), 46 PIO1_6 (io), 47 PIO1_7 (io), 48 PIO3_3 (io)

## LPC1224FBD48-101
designator *  value LPC1224FBD48-101
ki_keywords: ARM, 32-bit, Cortex-M0, M0, NXP, microcontroller; ki_description: LPC122x 32-bit ARM Cortex-M0 microcontroller, 32 kB FLASH, 4 kB SRAM, LQFP-48; ki_fp_filters: LQFP*7x7mm*P0.5mm*; Footprint: Package_QFP:LQFP-48_7x7mm_P0.5mm; Supplier: https://www.nxp.com/docs/en/data-sheet/LPC122X.pdf
footprint LQFP-48_7x7mm_P0.5mm
pins: 1 XTALIN (in), 2 XTALOUT (out), 3 VREF_CMP (in), 4 PIO0_19 (io), 5 PIO0_20 (io), 6 PIO0_21 (io), 7 PIO0_22 (io), 8 PIO0_23 (io), 9 PIO0_24 (io), 10 PIO0_25/SWDIO (io), 11 PIO0_26/SWCLK (io), 12 PIO0_27 (io), 13 PIO0_28 (io), 14 PIO0_29 (io), 15 PIO0_0 (io), 16 PIO0_1 (io), 17 PIO0_2 (io), 18 PIO0_3 (io), 19 PIO0_4 (io), 20 PIO0_5 (io), 21 PIO0_6 (io), 22 PIO0_7 (io), 23 PIO0_8 (io), 24 PIO0_9 (io), 25 PIO0_10 (io), 26 PIO0_11 (io), 27 PIO0_12/~{{ISP}} (io), 28 PIO0_13/~{{RESET}} (io), 29 PIO0_14 (io), 30 PIO0_15 (io), 31 PIO0_16 (io), 32 PIO0_17 (io), 33 PIO0_18 (io), 34 PIO0_30 (io), 35 PIO0_31 (io), 36 PIO1_0 (io), 37 PIO1_1 (io), 38 PIO1_2 (io), 39 WAKEUP/PIO1_3 (io), 40 PIO1_4 (io), 41 PIO1_5 (io), 42 PIO1_6 (io), 43 VSS (power), 44 VDD (power), 45 RTCXOUT (out), 46 RTCXIN (in), 47 VDDIO (power), 48 VSSIO (power)

## LPC1224FBD48-121
designator *  value LPC1224FBD48-121
ki_keywords: ARM, 32-bit, Cortex-M0, M0, NXP, microcontroller; ki_description: LPC122x 32-bit ARM Cortex-M0 microcontroller, 48 kB FLASH, 4 kB SRAM, LQFP-48; ki_fp_filters: LQFP*7x7mm*P0.5mm*; Footprint: Package_QFP:LQFP-48_7x7mm_P0.5mm; Supplier: https://www.nxp.com/docs/en/data-sheet/LPC122X.pdf
footprint LQFP-48_7x7mm_P0.5mm
pins: 1 XTALIN (in), 2 XTALOUT (out), 3 VREF_CMP (in), 4 PIO0_19 (io), 5 PIO0_20 (io), 6 PIO0_21 (io), 7 PIO0_22 (io), 8 PIO0_23 (io), 9 PIO0_24 (io), 10 PIO0_25/SWDIO (io), 11 PIO0_26/SWCLK (io), 12 PIO0_27 (io), 13 PIO0_28 (io), 14 PIO0_29 (io), 15 PIO0_0 (io), 16 PIO0_1 (io), 17 PIO0_2 (io), 18 PIO0_3 (io), 19 PIO0_4 (io), 20 PIO0_5 (io), 21 PIO0_6 (io), 22 PIO0_7 (io), 23 PIO0_8 (io), 24 PIO0_9 (io), 25 PIO0_10 (io), 26 PIO0_11 (io), 27 PIO0_12/~{{ISP}} (io), 28 PIO0_13/~{{RESET}} (io), 29 PIO0_14 (io), 30 PIO0_15 (io), 31 PIO0_16 (io), 32 PIO0_17 (io), 33 PIO0_18 (io), 34 PIO0_30 (io), 35 PIO0_31 (io), 36 PIO1_0 (io), 37 PIO1_1 (io), 38 PIO1_2 (io), 39 WAKEUP/PIO1_3 (io), 40 PIO1_4 (io), 41 PIO1_5 (io), 42 PIO1_6 (io), 43 VSS (power), 44 VDD (power), 45 RTCXOUT (out), 46 RTCXIN (in), 47 VDDIO (power), 48 VSSIO (power)

## LPC1224FBD64-101
designator *  value LPC1224FBD64-101
ki_keywords: ARM, 32-bit, Cortex-M0, M0, NXP, microcontroller; ki_description: LPC122x 32-bit ARM Cortex-M0 microcontroller, 32 kB FLASH, 4 kB SRAM, LQFP-64; ki_fp_filters: LQFP*10x10mm*P0.5mm*; Footprint: Package_QFP:LQFP-64_10x10mm_P0.5mm; Supplier: https://www.nxp.com/docs/en/data-sheet/LPC122X.pdf
footprint LQFP-64_10x10mm_P0.5mm
pins: 1 XTALIN (in), 2 XTALOUT (out), 3 VREF_CMP (in), 4 PIO0_19 (io), 5 PIO0_20 (io), 6 PIO0_21 (io), 7 PIO0_22 (io), 8 PIO0_23 (io), 9 PIO0_24 (io), 10 PIO0_25/SWDIO (io), 11 PIO0_26/SWCLK (io), 12 PIO0_27 (io), 13 PIO2_12 (io), 14 PIO2_13 (io), 15 PIO2_14 (io), 16 PIO2_15 (io), 17 PIO0_28 (io), 18 PIO0_29 (io), 19 PIO0_0 (io), 20 PIO0_1 (io), 21 PIO0_2 (io), 22 PIO0_3 (io), 23 PIO0_4 (io), 24 PIO0_5 (io), 25 PIO0_6 (io), 26 PIO0_7 (io), 27 PIO0_8 (io), 28 PIO0_9 (io), 29 PIO2_0 (io), 30 PIO2_1 (io), 31 PIO2_2 (io), 32 PIO2_3 (io), 33 PIO2_4 (io), 34 PIO2_5 (io), 35 PIO2_6 (io), 36 PIO2_7 (io), 37 PIO0_10 (io), 38 PIO0_11 (io), 39 PIO0_12/~{{ISP}} (io), 40 PIO0_13/~{{RESET}} (io), 41 PIO0_14 (io), 42 PIO0_15 (io), 43 PIO0_16 (io), 44 PIO0_17 (io), 45 PIO0_18 (io), 46 PIO0_30 (io), 47 PIO0_31 (io), 48 PIO1_0 (io), 49 PIO1_1 (io), 50 PIO1_2 (io), 51 WAKEUP/PIO1_3 (io), 52 PIO1_4 (io), 53 PIO1_5 (io), 54 PIO1_6 (io), 55 VSS (power), 56 VDD (power), 57 RTCXOUT (out), 58 RTCXIN (in), 59 PIO2_8 (io), 60 PIO2_9 (io), 61 PIO2_10 (io), 62 PIO2_11 (io), 63 VDDIO (power), 64 VSSIO (power)

## LPC1224FBD64-121
designator *  value LPC1224FBD64-121
ki_keywords: ARM, 32-bit, Cortex-M0, M0, NXP, microcontroller; ki_description: LPC122x 32-bit ARM Cortex-M0 microcontroller, 48 kB FLASH, 4 kB SRAM, LQFP-64; ki_fp_filters: LQFP*10x10mm*P0.5mm*; Footprint: Package_QFP:LQFP-64_10x10mm_P0.5mm; Supplier: https://www.nxp.com/docs/en/data-sheet/LPC122X.pdf
footprint LQFP-64_10x10mm_P0.5mm
pins: 1 XTALIN (in), 2 XTALOUT (out), 3 VREF_CMP (in), 4 PIO0_19 (io), 5 PIO0_20 (io), 6 PIO0_21 (io), 7 PIO0_22 (io), 8 PIO0_23 (io), 9 PIO0_24 (io), 10 PIO0_25/SWDIO (io), 11 PIO0_26/SWCLK (io), 12 PIO0_27 (io), 13 PIO2_12 (io), 14 PIO2_13 (io), 15 PIO2_14 (io), 16 PIO2_15 (io), 17 PIO0_28 (io), 18 PIO0_29 (io), 19 PIO0_0 (io), 20 PIO0_1 (io), 21 PIO0_2 (io), 22 PIO0_3 (io), 23 PIO0_4 (io), 24 PIO0_5 (io), 25 PIO0_6 (io), 26 PIO0_7 (io), 27 PIO0_8 (io), 28 PIO0_9 (io), 29 PIO2_0 (io), 30 PIO2_1 (io), 31 PIO2_2 (io), 32 PIO2_3 (io), 33 PIO2_4 (io), 34 PIO2_5 (io), 35 PIO2_6 (io), 36 PIO2_7 (io), 37 PIO0_10 (io), 38 PIO0_11 (io), 39 PIO0_12/~{{ISP}} (io), 40 PIO0_13/~{{RESET}} (io), 41 PIO0_14 (io), 42 PIO0_15 (io), 43 PIO0_16 (io), 44 PIO0_17 (io), 45 PIO0_18 (io), 46 PIO0_30 (io), 47 PIO0_31 (io), 48 PIO1_0 (io), 49 PIO1_1 (io), 50 PIO1_2 (io), 51 WAKEUP/PIO1_3 (io), 52 PIO1_4 (io), 53 PIO1_5 (io), 54 PIO1_6 (io), 55 VSS (power), 56 VDD (power), 57 RTCXOUT (out), 58 RTCXIN (in), 59 PIO2_8 (io), 60 PIO2_9 (io), 61 PIO2_10 (io), 62 PIO2_11 (io), 63 VDDIO (power), 64 VSSIO (power)

## LPC1225FBD48-301
designator *  value LPC1225FBD48-301
ki_keywords: ARM, 32-bit, Cortex-M0, M0, NXP, microcontroller; ki_description: LPC122x 32-bit ARM Cortex-M0 microcontroller, 64 kB FLASH, 8 kB SRAM, LQFP-48; ki_fp_filters: LQFP*7x7mm*P0.5mm*; Footprint: Package_QFP:LQFP-48_7x7mm_P0.5mm; Supplier: https://www.nxp.com/docs/en/data-sheet/LPC122X.pdf
footprint LQFP-48_7x7mm_P0.5mm
pins: 1 XTALIN (in), 2 XTALOUT (out), 3 VREF_CMP (in), 4 PIO0_19 (io), 5 PIO0_20 (io), 6 PIO0_21 (io), 7 PIO0_22 (io), 8 PIO0_23 (io), 9 PIO0_24 (io), 10 PIO0_25/SWDIO (io), 11 PIO0_26/SWCLK (io), 12 PIO0_27 (io), 13 PIO0_28 (io), 14 PIO0_29 (io), 15 PIO0_0 (io), 16 PIO0_1 (io), 17 PIO0_2 (io), 18 PIO0_3 (io), 19 PIO0_4 (io), 20 PIO0_5 (io), 21 PIO0_6 (io), 22 PIO0_7 (io), 23 PIO0_8 (io), 24 PIO0_9 (io), 25 PIO0_10 (io), 26 PIO0_11 (io), 27 PIO0_12/~{{ISP}} (io), 28 PIO0_13/~{{RESET}} (io), 29 PIO0_14 (io), 30 PIO0_15 (io), 31 PIO0_16 (io), 32 PIO0_17 (io), 33 PIO0_18 (io), 34 PIO0_30 (io), 35 PIO0_31 (io), 36 PIO1_0 (io), 37 PIO1_1 (io), 38 PIO1_2 (io), 39 WAKEUP/PIO1_3 (io), 40 PIO1_4 (io), 41 PIO1_5 (io), 42 PIO1_6 (io), 43 VSS (power), 44 VDD (power), 45 RTCXOUT (out), 46 RTCXIN (in), 47 VDDIO (power), 48 VSSIO (power)

## LPC1225FBD48-321
designator *  value LPC1225FBD48-321
ki_keywords: ARM, 32-bit, Cortex-M0, M0, NXP, microcontroller; ki_description: LPC122x 32-bit ARM Cortex-M0 microcontroller, 80 kB FLASH, 8 kB SRAM, LQFP-48; ki_fp_filters: LQFP*7x7mm*P0.5mm*; Footprint: Package_QFP:LQFP-48_7x7mm_P0.5mm; Supplier: https://www.nxp.com/docs/en/data-sheet/LPC122X.pdf
footprint LQFP-48_7x7mm_P0.5mm
pins: 1 XTALIN (in), 2 XTALOUT (out), 3 VREF_CMP (in), 4 PIO0_19 (io), 5 PIO0_20 (io), 6 PIO0_21 (io), 7 PIO0_22 (io), 8 PIO0_23 (io), 9 PIO0_24 (io), 10 PIO0_25/SWDIO (io), 11 PIO0_26/SWCLK (io), 12 PIO0_27 (io), 13 PIO0_28 (io), 14 PIO0_29 (io), 15 PIO0_0 (io), 16 PIO0_1 (io), 17 PIO0_2 (io), 18 PIO0_3 (io), 19 PIO0_4 (io), 20 PIO0_5 (io), 21 PIO0_6 (io), 22 PIO0_7 (io), 23 PIO0_8 (io), 24 PIO0_9 (io), 25 PIO0_10 (io), 26 PIO0_11 (io), 27 PIO0_12/~{{ISP}} (io), 28 PIO0_13/~{{RESET}} (io), 29 PIO0_14 (io), 30 PIO0_15 (io), 31 PIO0_16 (io), 32 PIO0_17 (io), 33 PIO0_18 (io), 34 PIO0_30 (io), 35 PIO0_31 (io), 36 PIO1_0 (io), 37 PIO1_1 (io), 38 PIO1_2 (io), 39 WAKEUP/PIO1_3 (io), 40 PIO1_4 (io), 41 PIO1_5 (io), 42 PIO1_6 (io), 43 VSS (power), 44 VDD (power), 45 RTCXOUT (out), 46 RTCXIN (in), 47 VDDIO (power), 48 VSSIO (power)

## LPC1225FBD64-301
designator *  value LPC1225FBD64-301
ki_keywords: ARM, 32-bit, Cortex-M0, M0, NXP, microcontroller; ki_description: LPC122x 32-bit ARM Cortex-M0 microcontroller, 64 kB FLASH, 8 kB SRAM, LQFP-64; ki_fp_filters: LQFP*10x10mm*P0.5mm*; Footprint: Package_QFP:LQFP-64_10x10mm_P0.5mm; Supplier: https://www.nxp.com/docs/en/data-sheet/LPC122X.pdf
footprint LQFP-64_10x10mm_P0.5mm
pins: 1 XTALIN (in), 2 XTALOUT (out), 3 VREF_CMP (in), 4 PIO0_19 (io), 5 PIO0_20 (io), 6 PIO0_21 (io), 7 PIO0_22 (io), 8 PIO0_23 (io), 9 PIO0_24 (io), 10 PIO0_25/SWDIO (io), 11 PIO0_26/SWCLK (io), 12 PIO0_27 (io), 13 PIO2_12 (io), 14 PIO2_13 (io), 15 PIO2_14 (io), 16 PIO2_15 (io), 17 PIO0_28 (io), 18 PIO0_29 (io), 19 PIO0_0 (io), 20 PIO0_1 (io), 21 PIO0_2 (io), 22 PIO0_3 (io), 23 PIO0_4 (io), 24 PIO0_5 (io), 25 PIO0_6 (io), 26 PIO0_7 (io), 27 PIO0_8 (io), 28 PIO0_9 (io), 29 PIO2_0 (io), 30 PIO2_1 (io), 31 PIO2_2 (io), 32 PIO2_3 (io), 33 PIO2_4 (io), 34 PIO2_5 (io), 35 PIO2_6 (io), 36 PIO2_7 (io), 37 PIO0_10 (io), 38 PIO0_11 (io), 39 PIO0_12/~{{ISP}} (io), 40 PIO0_13/~{{RESET}} (io), 41 PIO0_14 (io), 42 PIO0_15 (io), 43 PIO0_16 (io), 44 PIO0_17 (io), 45 PIO0_18 (io), 46 PIO0_30 (io), 47 PIO0_31 (io), 48 PIO1_0 (io), 49 PIO1_1 (io), 50 PIO1_2 (io), 51 WAKEUP/PIO1_3 (io), 52 PIO1_4 (io), 53 PIO1_5 (io), 54 PIO1_6 (io), 55 VSS (power), 56 VDD (power), 57 RTCXOUT (out), 58 RTCXIN (in), 59 PIO2_8 (io), 60 PIO2_9 (io), 61 PIO2_10 (io), 62 PIO2_11 (io), 63 VDDIO (power), 64 VSSIO (power)

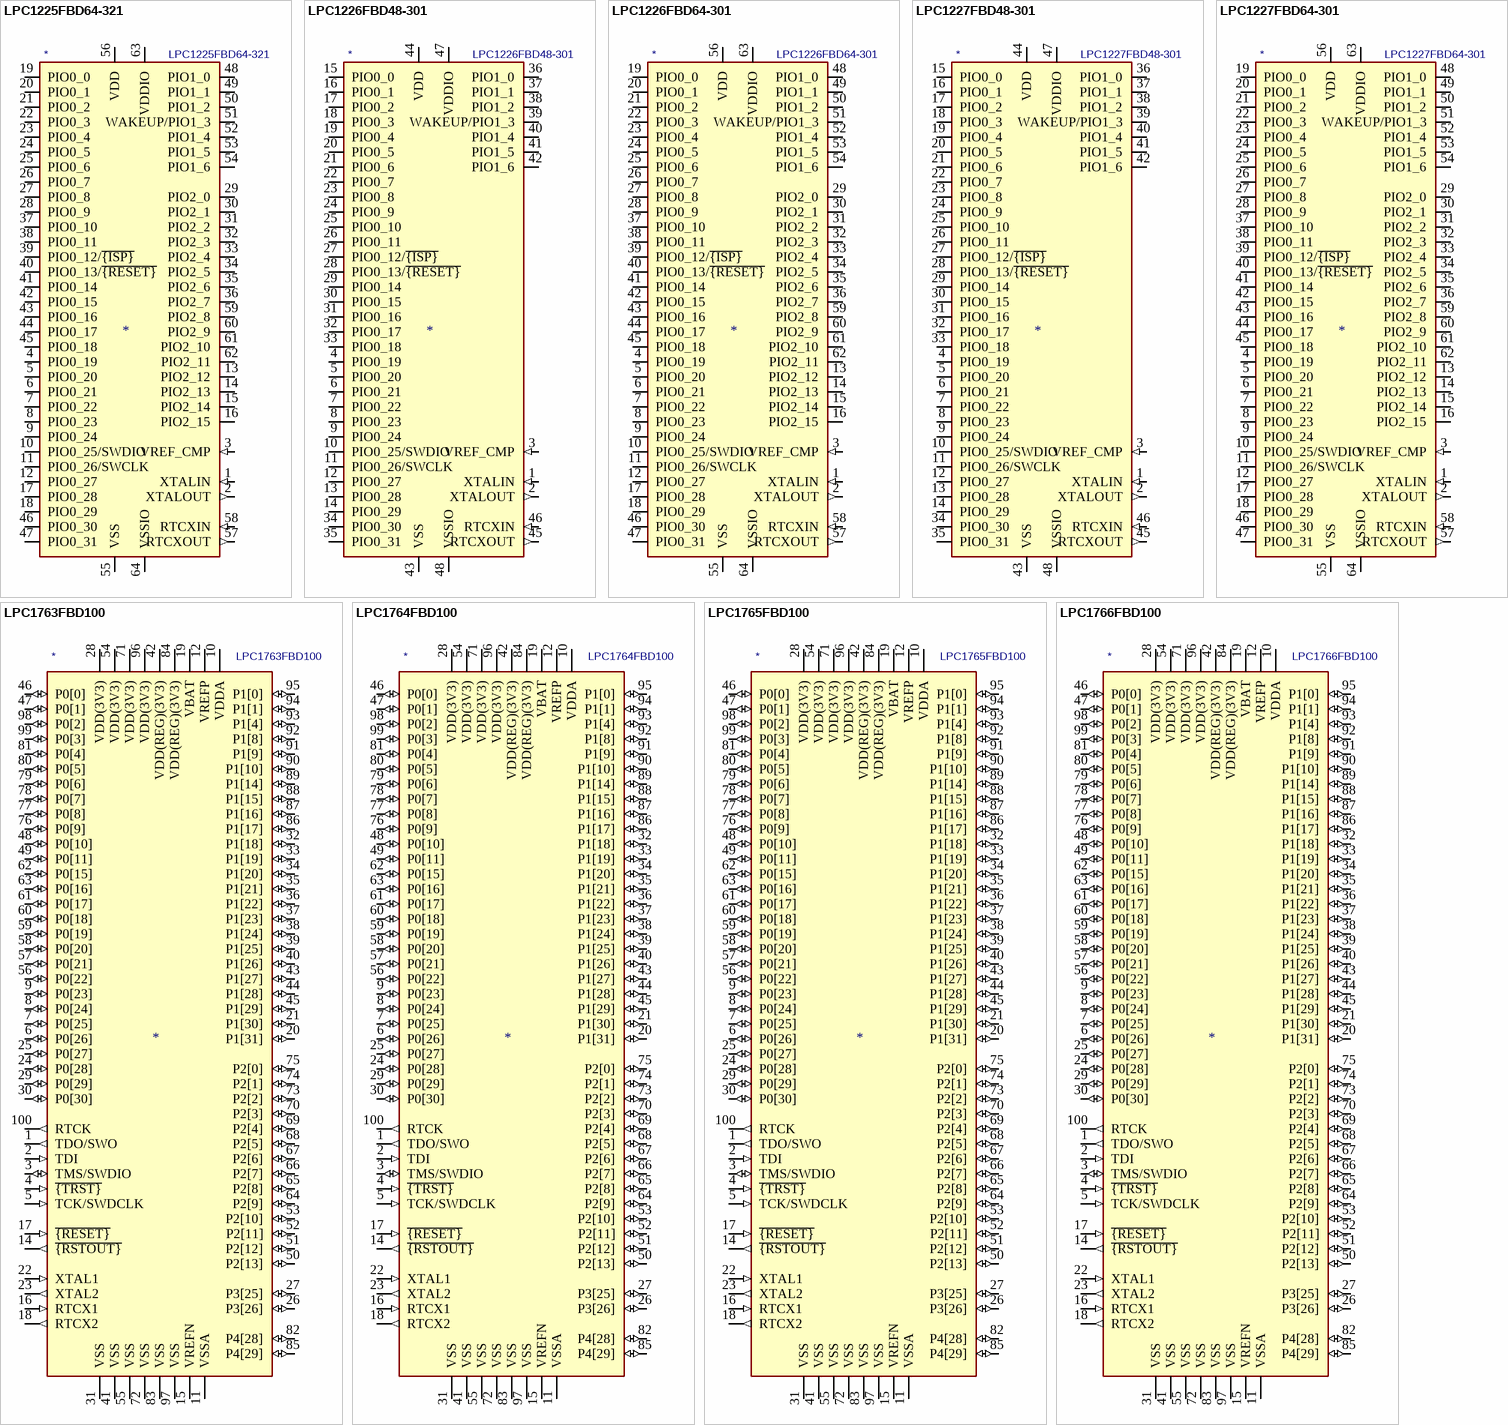
[diagram p6: symbols LPC1225FBD64-321 to LPC1766FBD100]

## LPC1225FBD64-321
designator *  value LPC1225FBD64-321
ki_keywords: ARM, 32-bit, Cortex-M0, M0, NXP, microcontroller; ki_description: LPC122x 32-bit ARM Cortex-M0 microcontroller, 80 kB FLASH, 8 kB SRAM, LQFP-64; ki_fp_filters: LQFP*10x10mm*P0.5mm*; Footprint: Package_QFP:LQFP-64_10x10mm_P0.5mm; Supplier: https://www.nxp.com/docs/en/data-sheet/LPC122X.pdf
footprint LQFP-64_10x10mm_P0.5mm
pins: 1 XTALIN (in), 2 XTALOUT (out), 3 VREF_CMP (in), 4 PIO0_19 (io), 5 PIO0_20 (io), 6 PIO0_21 (io), 7 PIO0_22 (io), 8 PIO0_23 (io), 9 PIO0_24 (io), 10 PIO0_25/SWDIO (io), 11 PIO0_26/SWCLK (io), 12 PIO0_27 (io), 13 PIO2_12 (io), 14 PIO2_13 (io), 15 PIO2_14 (io), 16 PIO2_15 (io), 17 PIO0_28 (io), 18 PIO0_29 (io), 19 PIO0_0 (io), 20 PIO0_1 (io), 21 PIO0_2 (io), 22 PIO0_3 (io), 23 PIO0_4 (io), 24 PIO0_5 (io), 25 PIO0_6 (io), 26 PIO0_7 (io), 27 PIO0_8 (io), 28 PIO0_9 (io), 29 PIO2_0 (io), 30 PIO2_1 (io), 31 PIO2_2 (io), 32 PIO2_3 (io), 33 PIO2_4 (io), 34 PIO2_5 (io), 35 PIO2_6 (io), 36 PIO2_7 (io), 37 PIO0_10 (io), 38 PIO0_11 (io), 39 PIO0_12/~{{ISP}} (io), 40 PIO0_13/~{{RESET}} (io), 41 PIO0_14 (io), 42 PIO0_15 (io), 43 PIO0_16 (io), 44 PIO0_17 (io), 45 PIO0_18 (io), 46 PIO0_30 (io), 47 PIO0_31 (io), 48 PIO1_0 (io), 49 PIO1_1 (io), 50 PIO1_2 (io), 51 WAKEUP/PIO1_3 (io), 52 PIO1_4 (io), 53 PIO1_5 (io), 54 PIO1_6 (io), 55 VSS (power), 56 VDD (power), 57 RTCXOUT (out), 58 RTCXIN (in), 59 PIO2_8 (io), 60 PIO2_9 (io), 61 PIO2_10 (io), 62 PIO2_11 (io), 63 VDDIO (power), 64 VSSIO (power)

## LPC1226FBD48-301
designator *  value LPC1226FBD48-301
ki_keywords: ARM, 32-bit, Cortex-M0, M0, NXP, microcontroller; ki_description: LPC122x 32-bit ARM Cortex-M0 microcontroller, 96 kB FLASH, 8 kB SRAM, LQFP-48; ki_fp_filters: LQFP*7x7mm*P0.5mm*; Footprint: Package_QFP:LQFP-48_7x7mm_P0.5mm; Supplier: https://www.nxp.com/docs/en/data-sheet/LPC122X.pdf
footprint LQFP-48_7x7mm_P0.5mm
pins: 1 XTALIN (in), 2 XTALOUT (out), 3 VREF_CMP (in), 4 PIO0_19 (io), 5 PIO0_20 (io), 6 PIO0_21 (io), 7 PIO0_22 (io), 8 PIO0_23 (io), 9 PIO0_24 (io), 10 PIO0_25/SWDIO (io), 11 PIO0_26/SWCLK (io), 12 PIO0_27 (io), 13 PIO0_28 (io), 14 PIO0_29 (io), 15 PIO0_0 (io), 16 PIO0_1 (io), 17 PIO0_2 (io), 18 PIO0_3 (io), 19 PIO0_4 (io), 20 PIO0_5 (io), 21 PIO0_6 (io), 22 PIO0_7 (io), 23 PIO0_8 (io), 24 PIO0_9 (io), 25 PIO0_10 (io), 26 PIO0_11 (io), 27 PIO0_12/~{{ISP}} (io), 28 PIO0_13/~{{RESET}} (io), 29 PIO0_14 (io), 30 PIO0_15 (io), 31 PIO0_16 (io), 32 PIO0_17 (io), 33 PIO0_18 (io), 34 PIO0_30 (io), 35 PIO0_31 (io), 36 PIO1_0 (io), 37 PIO1_1 (io), 38 PIO1_2 (io), 39 WAKEUP/PIO1_3 (io), 40 PIO1_4 (io), 41 PIO1_5 (io), 42 PIO1_6 (io), 43 VSS (power), 44 VDD (power), 45 RTCXOUT (out), 46 RTCXIN (in), 47 VDDIO (power), 48 VSSIO (power)

## LPC1226FBD64-301
designator *  value LPC1226FBD64-301
ki_keywords: ARM, 32-bit, Cortex-M0, M0, NXP, microcontroller; ki_description: LPC122x 32-bit ARM Cortex-M0 microcontroller, 96 kB FLASH, 8 kB SRAM, LQFP-64; ki_fp_filters: LQFP*10x10mm*P0.5mm*; Footprint: Package_QFP:LQFP-64_10x10mm_P0.5mm; Supplier: https://www.nxp.com/docs/en/data-sheet/LPC122X.pdf
footprint LQFP-64_10x10mm_P0.5mm
pins: 1 XTALIN (in), 2 XTALOUT (out), 3 VREF_CMP (in), 4 PIO0_19 (io), 5 PIO0_20 (io), 6 PIO0_21 (io), 7 PIO0_22 (io), 8 PIO0_23 (io), 9 PIO0_24 (io), 10 PIO0_25/SWDIO (io), 11 PIO0_26/SWCLK (io), 12 PIO0_27 (io), 13 PIO2_12 (io), 14 PIO2_13 (io), 15 PIO2_14 (io), 16 PIO2_15 (io), 17 PIO0_28 (io), 18 PIO0_29 (io), 19 PIO0_0 (io), 20 PIO0_1 (io), 21 PIO0_2 (io), 22 PIO0_3 (io), 23 PIO0_4 (io), 24 PIO0_5 (io), 25 PIO0_6 (io), 26 PIO0_7 (io), 27 PIO0_8 (io), 28 PIO0_9 (io), 29 PIO2_0 (io), 30 PIO2_1 (io), 31 PIO2_2 (io), 32 PIO2_3 (io), 33 PIO2_4 (io), 34 PIO2_5 (io), 35 PIO2_6 (io), 36 PIO2_7 (io), 37 PIO0_10 (io), 38 PIO0_11 (io), 39 PIO0_12/~{{ISP}} (io), 40 PIO0_13/~{{RESET}} (io), 41 PIO0_14 (io), 42 PIO0_15 (io), 43 PIO0_16 (io), 44 PIO0_17 (io), 45 PIO0_18 (io), 46 PIO0_30 (io), 47 PIO0_31 (io), 48 PIO1_0 (io), 49 PIO1_1 (io), 50 PIO1_2 (io), 51 WAKEUP/PIO1_3 (io), 52 PIO1_4 (io), 53 PIO1_5 (io), 54 PIO1_6 (io), 55 VSS (power), 56 VDD (power), 57 RTCXOUT (out), 58 RTCXIN (in), 59 PIO2_8 (io), 60 PIO2_9 (io), 61 PIO2_10 (io), 62 PIO2_11 (io), 63 VDDIO (power), 64 VSSIO (power)

## LPC1227FBD48-301
designator *  value LPC1227FBD48-301
ki_keywords: ARM, 32-bit, Cortex-M0, M0, NXP, microcontroller; ki_description: LPC122x 32-bit ARM Cortex-M0 microcontroller, 128 kB FLASH, 8 kB SRAM, LQFP-48; ki_fp_filters: LQFP*7x7mm*P0.5mm*; Footprint: Package_QFP:LQFP-48_7x7mm_P0.5mm; Supplier: https://www.nxp.com/docs/en/data-sheet/LPC122X.pdf
footprint LQFP-48_7x7mm_P0.5mm
pins: 1 XTALIN (in), 2 XTALOUT (out), 3 VREF_CMP (in), 4 PIO0_19 (io), 5 PIO0_20 (io), 6 PIO0_21 (io), 7 PIO0_22 (io), 8 PIO0_23 (io), 9 PIO0_24 (io), 10 PIO0_25/SWDIO (io), 11 PIO0_26/SWCLK (io), 12 PIO0_27 (io), 13 PIO0_28 (io), 14 PIO0_29 (io), 15 PIO0_0 (io), 16 PIO0_1 (io), 17 PIO0_2 (io), 18 PIO0_3 (io), 19 PIO0_4 (io), 20 PIO0_5 (io), 21 PIO0_6 (io), 22 PIO0_7 (io), 23 PIO0_8 (io), 24 PIO0_9 (io), 25 PIO0_10 (io), 26 PIO0_11 (io), 27 PIO0_12/~{{ISP}} (io), 28 PIO0_13/~{{RESET}} (io), 29 PIO0_14 (io), 30 PIO0_15 (io), 31 PIO0_16 (io), 32 PIO0_17 (io), 33 PIO0_18 (io), 34 PIO0_30 (io), 35 PIO0_31 (io), 36 PIO1_0 (io), 37 PIO1_1 (io), 38 PIO1_2 (io), 39 WAKEUP/PIO1_3 (io), 40 PIO1_4 (io), 41 PIO1_5 (io), 42 PIO1_6 (io), 43 VSS (power), 44 VDD (power), 45 RTCXOUT (out), 46 RTCXIN (in), 47 VDDIO (power), 48 VSSIO (power)

## LPC1227FBD64-301
designator *  value LPC1227FBD64-301
ki_keywords: ARM, 32-bit, Cortex-M0, M0, NXP, microcontroller; ki_description: LPC122x 32-bit ARM Cortex-M0 microcontroller, 128 kB FLASH, 8 kB SRAM, LQFP-64; ki_fp_filters: LQFP*10x10mm*P0.5mm*; Footprint: Package_QFP:LQFP-64_10x10mm_P0.5mm; Supplier: https://www.nxp.com/docs/en/data-sheet/LPC122X.pdf
footprint LQFP-64_10x10mm_P0.5mm
pins: 1 XTALIN (in), 2 XTALOUT (out), 3 VREF_CMP (in), 4 PIO0_19 (io), 5 PIO0_20 (io), 6 PIO0_21 (io), 7 PIO0_22 (io), 8 PIO0_23 (io), 9 PIO0_24 (io), 10 PIO0_25/SWDIO (io), 11 PIO0_26/SWCLK (io), 12 PIO0_27 (io), 13 PIO2_12 (io), 14 PIO2_13 (io), 15 PIO2_14 (io), 16 PIO2_15 (io), 17 PIO0_28 (io), 18 PIO0_29 (io), 19 PIO0_0 (io), 20 PIO0_1 (io), 21 PIO0_2 (io), 22 PIO0_3 (io), 23 PIO0_4 (io), 24 PIO0_5 (io), 25 PIO0_6 (io), 26 PIO0_7 (io), 27 PIO0_8 (io), 28 PIO0_9 (io), 29 PIO2_0 (io), 30 PIO2_1 (io), 31 PIO2_2 (io), 32 PIO2_3 (io), 33 PIO2_4 (io), 34 PIO2_5 (io), 35 PIO2_6 (io), 36 PIO2_7 (io), 37 PIO0_10 (io), 38 PIO0_11 (io), 39 PIO0_12/~{{ISP}} (io), 40 PIO0_13/~{{RESET}} (io), 41 PIO0_14 (io), 42 PIO0_15 (io), 43 PIO0_16 (io), 44 PIO0_17 (io), 45 PIO0_18 (io), 46 PIO0_30 (io), 47 PIO0_31 (io), 48 PIO1_0 (io), 49 PIO1_1 (io), 50 PIO1_2 (io), 51 WAKEUP/PIO1_3 (io), 52 PIO1_4 (io), 53 PIO1_5 (io), 54 PIO1_6 (io), 55 VSS (power), 56 VDD (power), 57 RTCXOUT (out), 58 RTCXIN (in), 59 PIO2_8 (io), 60 PIO2_9 (io), 61 PIO2_10 (io), 62 PIO2_11 (io), 63 VDDIO (power), 64 VSSIO (power)